# Altium integrated library Xilinx PLD XC9500XL.IntLib: 169 symbols (part 9 of 11)
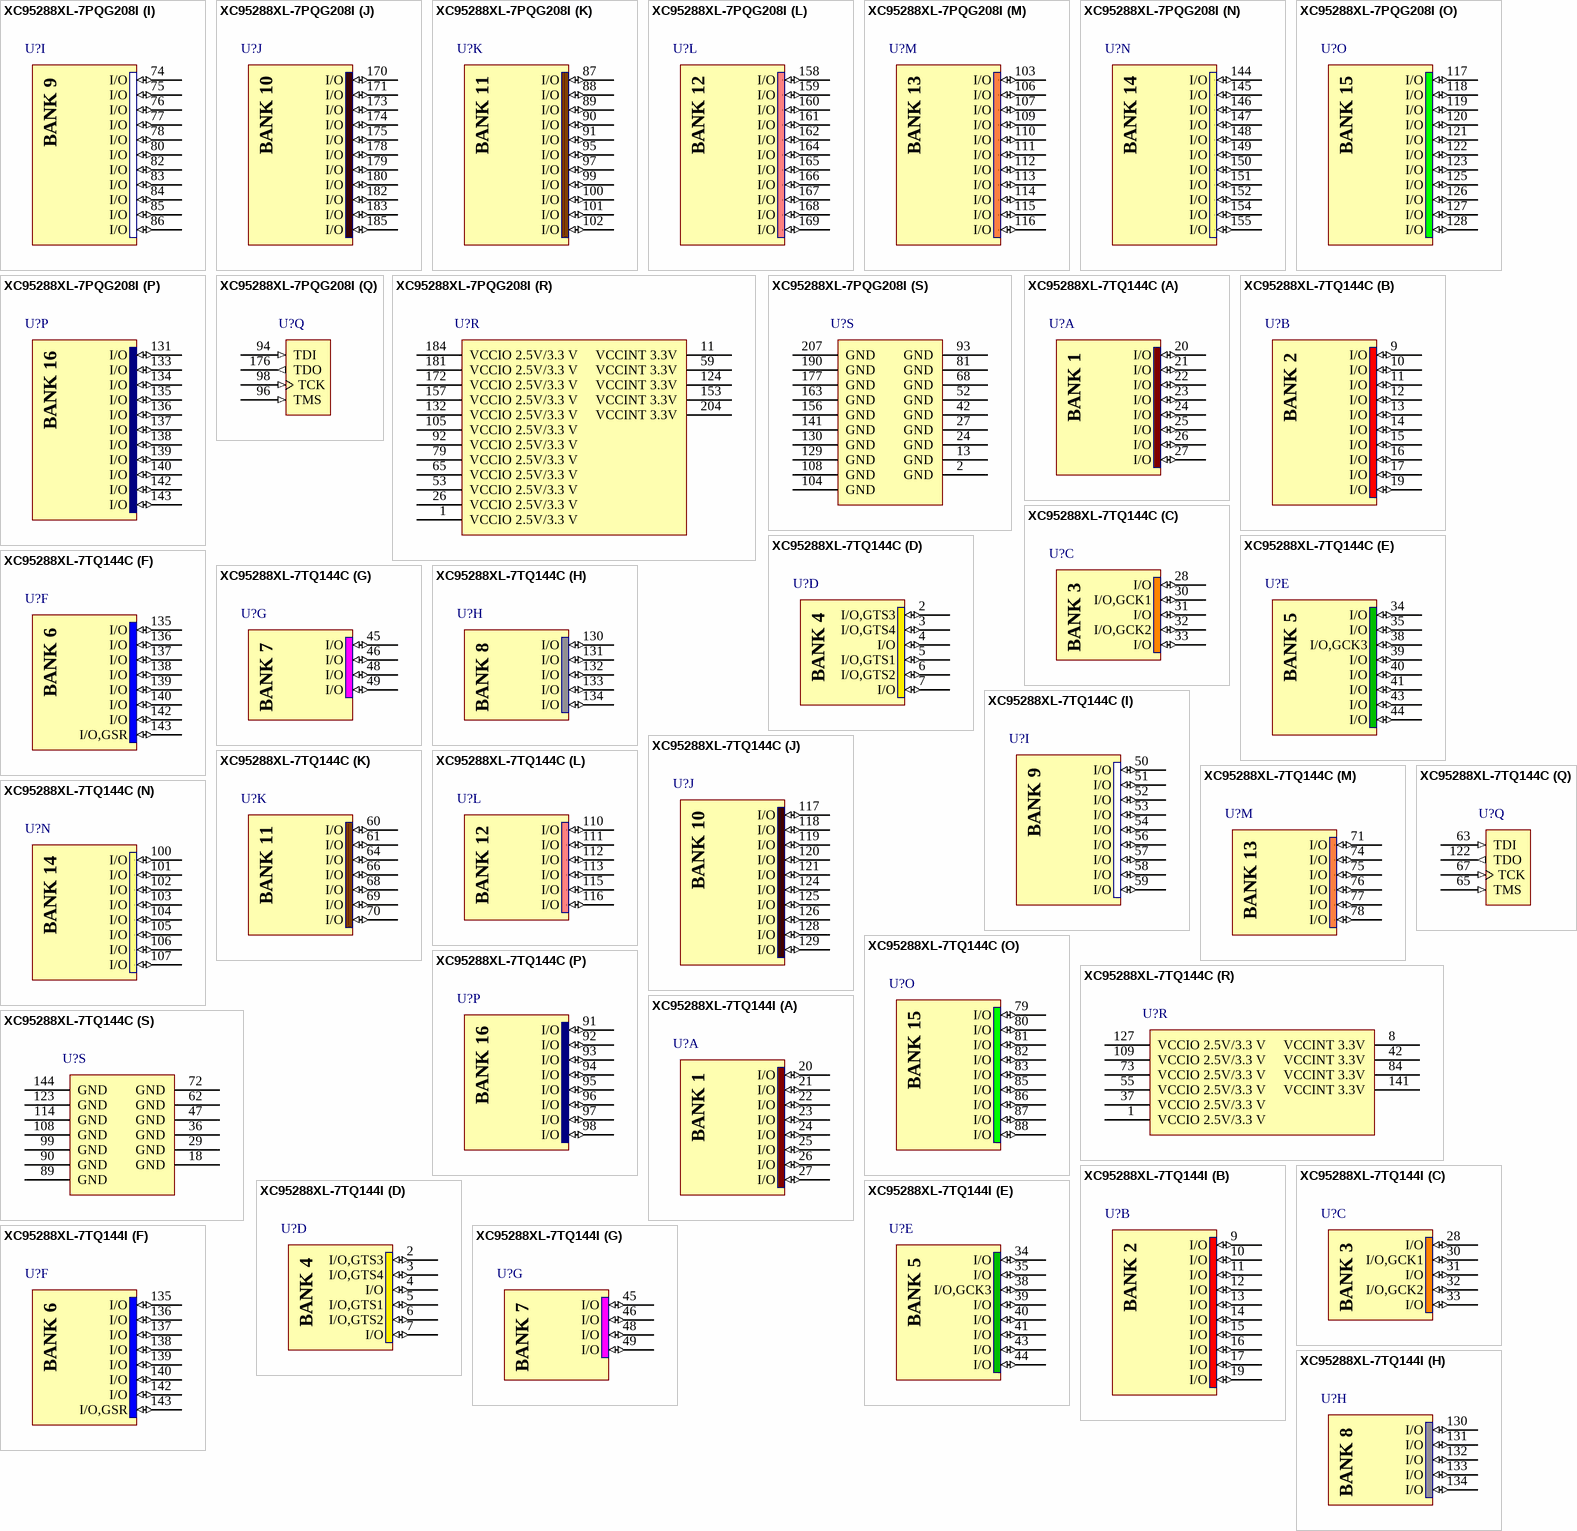
[diagram p61: symbols XC95288XL-7PQG208I to XC95288XL-7TQ144I]

## XC95288XL-7TQ144C
designator U?
FastFLASH XC900XL, 3.3V High-Performance CPLD with 288 Macrocells, 144-Pin TQFP, Commercial Grade; Published: 17-Jul-2002; LatestRevisionDate: 13-Apr-2006; LatestRevisionNote: IPC-7351 Footprint Added.; DatasheetVersion: ver2.0, Mar-2006; PackageVersion: ver1.2, Jun-2004; PackageReference: TQ144; Publisher: Altium Limited; PackageDescription: 144-Pin Thin Quad Flat Pack (TQ144); Code_JEDEC: MS-026-BFB; ComponentLink1Description: Manufacturer Link; ComponentLink1URL: http://www.xilinx.com/products/silicon_solutions/cplds/xc9500_series/xc9500xl/index.htm; ComponentLink2Description: Datasheet; ComponentLink2URL: http://direct.xilinx.com/bvdocs/publications/ds055.pdf
footprint TQ144_N (Thin QFP, 144-Leads, Body 20x20mm, Pitch 0.5mm, IPC Medium Density)
footprint TQ144_L (Thin QFP, 144-Leads, Body 20x20mm, Pitch 0.5mm, IPC High Density)
footprint TQ144_M (Thin QFP, 144-Leads, Body 20x20mm, Pitch 0.5mm, IPC Low Density)
3D model XC95288XL-TQ144 (144-Pin Thin Quad Flat Pack (TQ144))
signal-integrity model XC95288XL_TQ144 (XC9500XL)
part A pins: 20 I/O (io), 21 I/O (io), 22 I/O (io), 23 I/O (io), 24 I/O (io), 25 I/O (io), 26 I/O (io), 27 I/O (io)
part B pins: 9 I/O (io), 10 I/O (io), 11 I/O (io), 12 I/O (io), 13 I/O (io), 14 I/O (io), 15 I/O (io), 16 I/O (io), 17 I/O (io), 19 I/O (io)
part C pins: 28 I/O (io), 30 I/O,GCK1 (io), 31 I/O (io), 32 I/O,GCK2 (io), 33 I/O (io)
part D pins: 2 I/O,GTS3 (io), 3 I/O,GTS4 (io), 4 I/O (io), 5 I/O,GTS1 (io), 6 I/O,GTS2 (io), 7 I/O (io)
part E pins: 34 I/O (io), 35 I/O (io), 38 I/O,GCK3 (io), 39 I/O (io), 40 I/O (io), 41 I/O (io), 43 I/O (io), 44 I/O (io)
part F pins: 135 I/O (io), 136 I/O (io), 137 I/O (io), 138 I/O (io), 139 I/O (io), 140 I/O (io), 142 I/O (io), 143 I/O,GSR (io)
part G pins: 45 I/O (io), 46 I/O (io), 48 I/O (io), 49 I/O (io)
part H pins: 130 I/O (io), 131 I/O (io), 132 I/O (io), 133 I/O (io), 134 I/O (io)
part I pins: 50 I/O (io), 51 I/O (io), 52 I/O (io), 53 I/O (io), 54 I/O (io), 56 I/O (io), 57 I/O (io), 58 I/O (io), 59 I/O (io)
part J pins: 117 I/O (io), 118 I/O (io), 119 I/O (io), 120 I/O (io), 121 I/O (io), 124 I/O (io), 125 I/O (io), 126 I/O (io), 128 I/O (io), 129 I/O (io)
part K pins: 60 I/O (io), 61 I/O (io), 64 I/O (io), 66 I/O (io), 68 I/O (io), 69 I/O (io), 70 I/O (io)
part L pins: 110 I/O (io), 111 I/O (io), 112 I/O (io), 113 I/O (io), 115 I/O (io), 116 I/O (io)
part M pins: 71 I/O (io), 74 I/O (io), 75 I/O (io), 76 I/O (io), 77 I/O (io), 78 I/O (io)
part N pins: 100 I/O (io), 101 I/O (io), 102 I/O (io), 103 I/O (io), 104 I/O (io), 105 I/O (io), 106 I/O (io), 107 I/O (io)
part O pins: 79 I/O (io), 80 I/O (io), 81 I/O (io), 82 I/O (io), 83 I/O (io), 85 I/O (io), 86 I/O (io), 87 I/O (io), 88 I/O (io)
part P pins: 91 I/O (io), 92 I/O (io), 93 I/O (io), 94 I/O (io), 95 I/O (io), 96 I/O (io), 97 I/O (io), 98 I/O (io)
part Q pins: 63 TDI (in), 65 TMS (in), 67 TCK (in), 122 TDO (out)
part R pins: 1 VCCIO 2.5V/3.3 V (power), 8 VCCINT 3.3V (power), 37 VCCIO 2.5V/3.3 V (power), 42 VCCINT 3.3V (power), 55 VCCIO 2.5V/3.3 V (power), 73 VCCIO 2.5V/3.3 V (power), 84 VCCINT 3.3V (power), 109 VCCIO 2.5V/3.3 V (power), 127 VCCIO 2.5V/3.3 V (power), 141 VCCINT 3.3V (power)
part S pins: 18 GND (power), 29 GND (power), 36 GND (power), 47 GND (power), 62 GND (power), 72 GND (power), 89 GND (power), 90 GND (power), 99 GND (power), 108 GND (power), 114 GND (power), 123 GND (power), 144 GND (power)
part A text: BANK 1
part B text: BANK 2
part C text: BANK 3
part D text: BANK 4
part E text: BANK 5
part F text: BANK 6
part G text: BANK 7
part H text: BANK 8
part I text: BANK 9
part J text: BANK 10
part K text: BANK 11
part L text: BANK 12
part M text: BANK 13
part N text: BANK 14
part O text: BANK 15
part P text: BANK 16

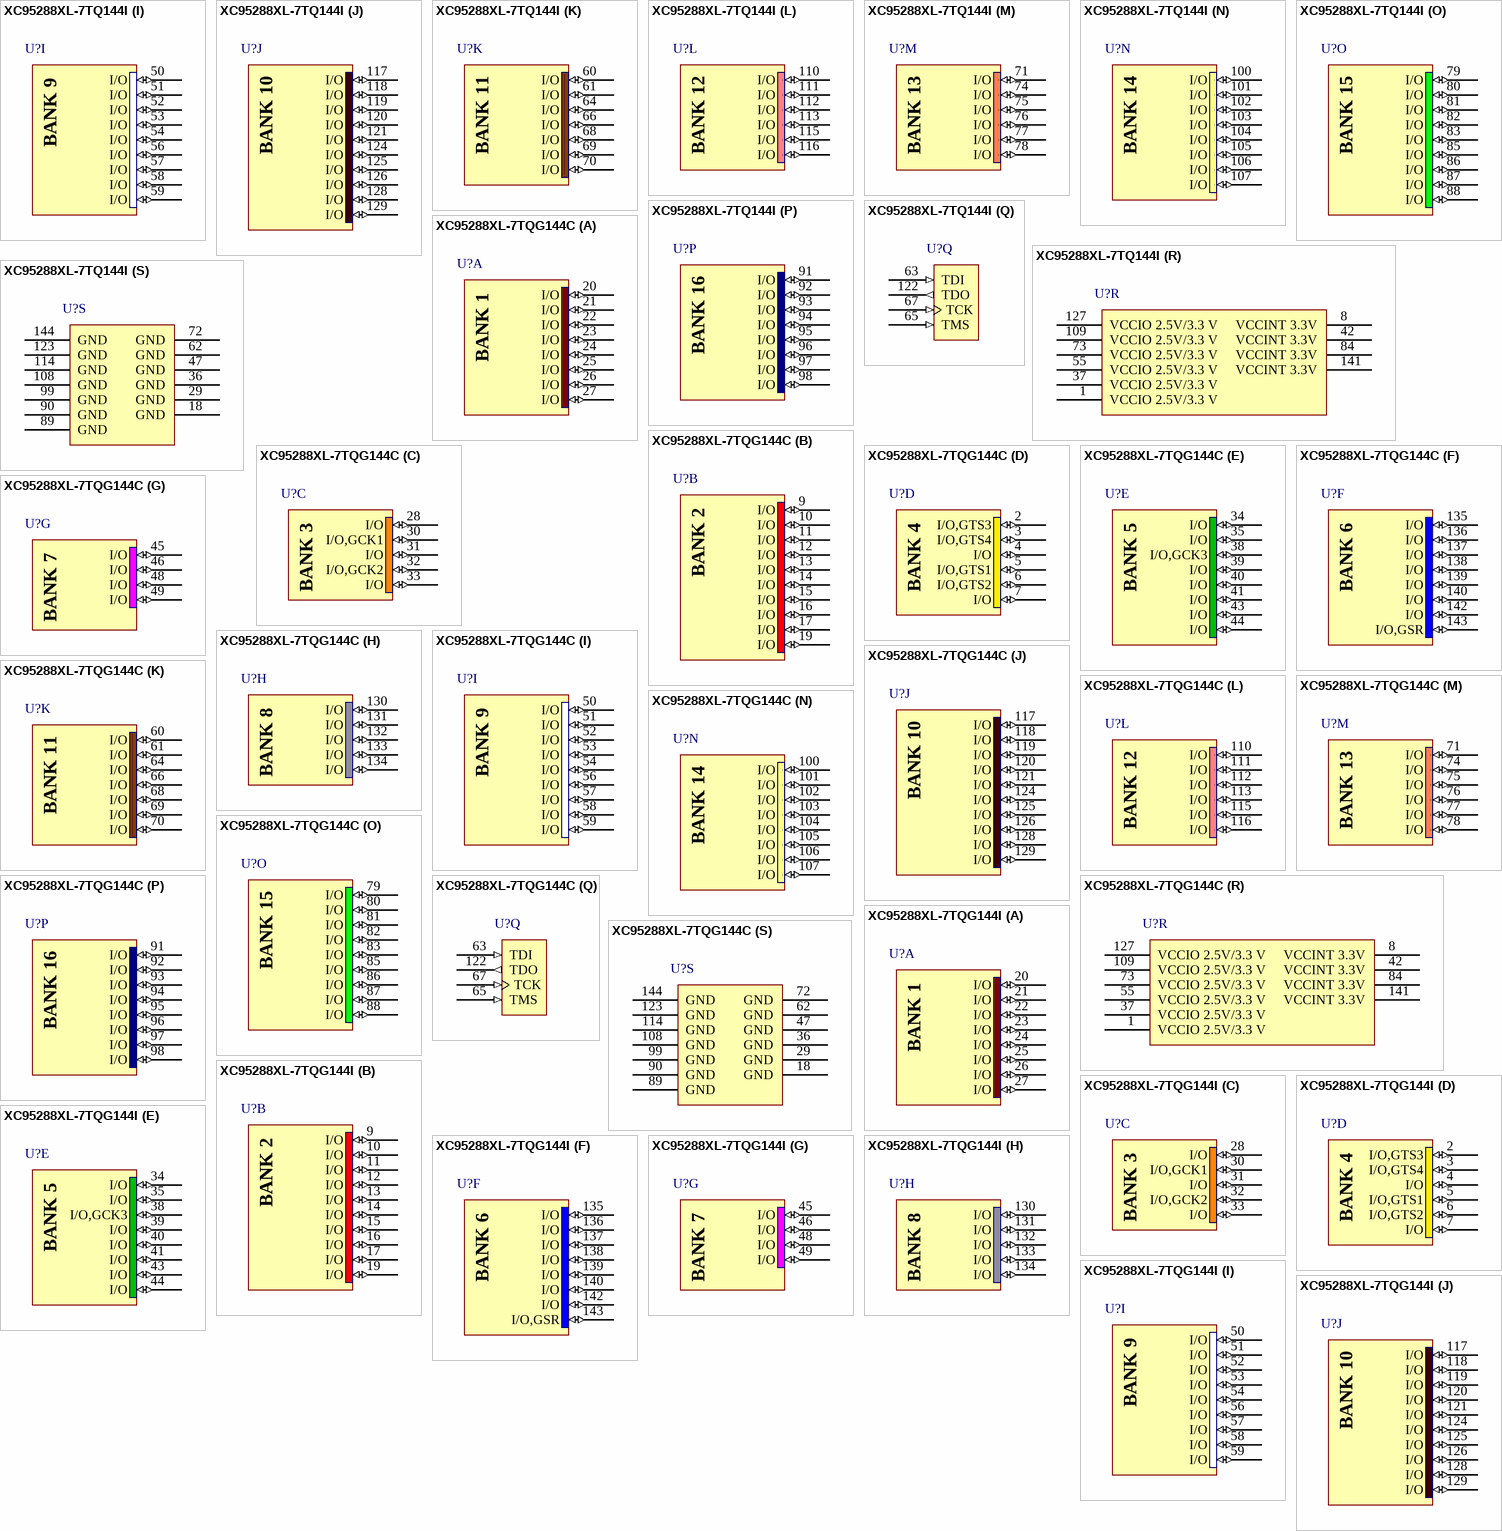
[diagram p41: symbols XC95288XL-7TQ144I to XC95288XL-7TQG144I]

## XC95288XL-7TQ144I
designator U?
FastFLASH XC900XL, 3.3V High-Performance CPLD with 288 Macrocells, 144-Pin TQFP, Industrial Grade; Published: 17-Sep-2003; LatestRevisionDate: 13-Apr-2006; LatestRevisionNote: IPC-7351 Footprint Added.; DatasheetVersion: ver2.0, Mar-2006; PackageVersion: ver1.2, Jun-2004; PackageReference: TQ144; Publisher: Altium Limited; PackageDescription: 144-Pin Thin Quad Flat Pack (TQ144); Code_JEDEC: MS-026-BFB; ComponentLink1Description: Manufacturer Link; ComponentLink1URL: http://www.xilinx.com/products/silicon_solutions/cplds/xc9500_series/xc9500xl/index.htm; ComponentLink2Description: Datasheet; ComponentLink2URL: http://direct.xilinx.com/bvdocs/publications/ds055.pdf
footprint TQ144_N (Thin QFP, 144-Leads, Body 20x20mm, Pitch 0.5mm, IPC Medium Density)
footprint TQ144_L (Thin QFP, 144-Leads, Body 20x20mm, Pitch 0.5mm, IPC High Density)
footprint TQ144_M (Thin QFP, 144-Leads, Body 20x20mm, Pitch 0.5mm, IPC Low Density)
3D model XC95288XL-TQ144 (144-Pin Thin Quad Flat Pack (TQ144))
signal-integrity model XC95288XL_TQ144 (XC9500XL)
part A pins: 20 I/O (io), 21 I/O (io), 22 I/O (io), 23 I/O (io), 24 I/O (io), 25 I/O (io), 26 I/O (io), 27 I/O (io)
part B pins: 9 I/O (io), 10 I/O (io), 11 I/O (io), 12 I/O (io), 13 I/O (io), 14 I/O (io), 15 I/O (io), 16 I/O (io), 17 I/O (io), 19 I/O (io)
part C pins: 28 I/O (io), 30 I/O,GCK1 (io), 31 I/O (io), 32 I/O,GCK2 (io), 33 I/O (io)
part D pins: 2 I/O,GTS3 (io), 3 I/O,GTS4 (io), 4 I/O (io), 5 I/O,GTS1 (io), 6 I/O,GTS2 (io), 7 I/O (io)
part E pins: 34 I/O (io), 35 I/O (io), 38 I/O,GCK3 (io), 39 I/O (io), 40 I/O (io), 41 I/O (io), 43 I/O (io), 44 I/O (io)
part F pins: 135 I/O (io), 136 I/O (io), 137 I/O (io), 138 I/O (io), 139 I/O (io), 140 I/O (io), 142 I/O (io), 143 I/O,GSR (io)
part G pins: 45 I/O (io), 46 I/O (io), 48 I/O (io), 49 I/O (io)
part H pins: 130 I/O (io), 131 I/O (io), 132 I/O (io), 133 I/O (io), 134 I/O (io)
part I pins: 50 I/O (io), 51 I/O (io), 52 I/O (io), 53 I/O (io), 54 I/O (io), 56 I/O (io), 57 I/O (io), 58 I/O (io), 59 I/O (io)
part J pins: 117 I/O (io), 118 I/O (io), 119 I/O (io), 120 I/O (io), 121 I/O (io), 124 I/O (io), 125 I/O (io), 126 I/O (io), 128 I/O (io), 129 I/O (io)
part K pins: 60 I/O (io), 61 I/O (io), 64 I/O (io), 66 I/O (io), 68 I/O (io), 69 I/O (io), 70 I/O (io)
part L pins: 110 I/O (io), 111 I/O (io), 112 I/O (io), 113 I/O (io), 115 I/O (io), 116 I/O (io)
part M pins: 71 I/O (io), 74 I/O (io), 75 I/O (io), 76 I/O (io), 77 I/O (io), 78 I/O (io)
part N pins: 100 I/O (io), 101 I/O (io), 102 I/O (io), 103 I/O (io), 104 I/O (io), 105 I/O (io), 106 I/O (io), 107 I/O (io)
part O pins: 79 I/O (io), 80 I/O (io), 81 I/O (io), 82 I/O (io), 83 I/O (io), 85 I/O (io), 86 I/O (io), 87 I/O (io), 88 I/O (io)
part P pins: 91 I/O (io), 92 I/O (io), 93 I/O (io), 94 I/O (io), 95 I/O (io), 96 I/O (io), 97 I/O (io), 98 I/O (io)
part Q pins: 63 TDI (in), 65 TMS (in), 67 TCK (in), 122 TDO (out)
part R pins: 1 VCCIO 2.5V/3.3 V (power), 8 VCCINT 3.3V (power), 37 VCCIO 2.5V/3.3 V (power), 42 VCCINT 3.3V (power), 55 VCCIO 2.5V/3.3 V (power), 73 VCCIO 2.5V/3.3 V (power), 84 VCCINT 3.3V (power), 109 VCCIO 2.5V/3.3 V (power), 127 VCCIO 2.5V/3.3 V (power), 141 VCCINT 3.3V (power)
part S pins: 18 GND (power), 29 GND (power), 36 GND (power), 47 GND (power), 62 GND (power), 72 GND (power), 89 GND (power), 90 GND (power), 99 GND (power), 108 GND (power), 114 GND (power), 123 GND (power), 144 GND (power)
part A text: BANK 1
part B text: BANK 2
part C text: BANK 3
part D text: BANK 4
part E text: BANK 5
part F text: BANK 6
part G text: BANK 7
part H text: BANK 8
part I text: BANK 9
part J text: BANK 10
part K text: BANK 11
part L text: BANK 12
part M text: BANK 13
part N text: BANK 14
part O text: BANK 15
part P text: BANK 16

## XC95288XL-7TQG144C
designator U?
FastFLASH XC900XL, 3.3V High-Performance CPLD with 288 Macrocells, 144-Pin TQFP, Commercial Grade, Pb-Free; Published: 8-Sep-2006; DatasheetVersion: ver2.0, Mar-2006; PackageVersion: ver1.2, Jun-2004; PackageReference: TQG144; Publisher: Altium Limited; PackageDescription: 144-Pin Thin Quad Flat Pack (TQG144) - Pb-Free; Code_JEDEC: MS-026-BFB; ComponentLink1Description: Manufacturer Link; ComponentLink1URL: http://www.xilinx.com/products/silicon_solutions/cplds/xc9500_series/xc9500xl/index.htm; ComponentLink2Description: Datasheet; ComponentLink2URL: http://direct.xilinx.com/bvdocs/publications/ds055.pdf
footprint TQG144_N (Thin QFP, 144-Leads, Body 20x20mm, Pitch 0.5mm, IPC Medium Density)
footprint TQG144_L (Thin QFP, 144-Leads, Body 20x20mm, Pitch 0.5mm, IPC High Density)
footprint TQG144_M (Thin QFP, 144-Leads, Body 20x20mm, Pitch 0.5mm, IPC Low Density)
3D model XC95288XL-TQ144 (144-Pin Thin Quad Flat Pack (TQG144) - Pb-Free)
signal-integrity model XC95288XL_TQ144 (XC9500XL)
part A pins: 20 I/O (io), 21 I/O (io), 22 I/O (io), 23 I/O (io), 24 I/O (io), 25 I/O (io), 26 I/O (io), 27 I/O (io)
part B pins: 9 I/O (io), 10 I/O (io), 11 I/O (io), 12 I/O (io), 13 I/O (io), 14 I/O (io), 15 I/O (io), 16 I/O (io), 17 I/O (io), 19 I/O (io)
part C pins: 28 I/O (io), 30 I/O,GCK1 (io), 31 I/O (io), 32 I/O,GCK2 (io), 33 I/O (io)
part D pins: 2 I/O,GTS3 (io), 3 I/O,GTS4 (io), 4 I/O (io), 5 I/O,GTS1 (io), 6 I/O,GTS2 (io), 7 I/O (io)
part E pins: 34 I/O (io), 35 I/O (io), 38 I/O,GCK3 (io), 39 I/O (io), 40 I/O (io), 41 I/O (io), 43 I/O (io), 44 I/O (io)
part F pins: 135 I/O (io), 136 I/O (io), 137 I/O (io), 138 I/O (io), 139 I/O (io), 140 I/O (io), 142 I/O (io), 143 I/O,GSR (io)
part G pins: 45 I/O (io), 46 I/O (io), 48 I/O (io), 49 I/O (io)
part H pins: 130 I/O (io), 131 I/O (io), 132 I/O (io), 133 I/O (io), 134 I/O (io)
part I pins: 50 I/O (io), 51 I/O (io), 52 I/O (io), 53 I/O (io), 54 I/O (io), 56 I/O (io), 57 I/O (io), 58 I/O (io), 59 I/O (io)
part J pins: 117 I/O (io), 118 I/O (io), 119 I/O (io), 120 I/O (io), 121 I/O (io), 124 I/O (io), 125 I/O (io), 126 I/O (io), 128 I/O (io), 129 I/O (io)
part K pins: 60 I/O (io), 61 I/O (io), 64 I/O (io), 66 I/O (io), 68 I/O (io), 69 I/O (io), 70 I/O (io)
part L pins: 110 I/O (io), 111 I/O (io), 112 I/O (io), 113 I/O (io), 115 I/O (io), 116 I/O (io)
part M pins: 71 I/O (io), 74 I/O (io), 75 I/O (io), 76 I/O (io), 77 I/O (io), 78 I/O (io)
part N pins: 100 I/O (io), 101 I/O (io), 102 I/O (io), 103 I/O (io), 104 I/O (io), 105 I/O (io), 106 I/O (io), 107 I/O (io)
part O pins: 79 I/O (io), 80 I/O (io), 81 I/O (io), 82 I/O (io), 83 I/O (io), 85 I/O (io), 86 I/O (io), 87 I/O (io), 88 I/O (io)
part P pins: 91 I/O (io), 92 I/O (io), 93 I/O (io), 94 I/O (io), 95 I/O (io), 96 I/O (io), 97 I/O (io), 98 I/O (io)
part Q pins: 63 TDI (in), 65 TMS (in), 67 TCK (in), 122 TDO (out)
part R pins: 1 VCCIO 2.5V/3.3 V (power), 8 VCCINT 3.3V (power), 37 VCCIO 2.5V/3.3 V (power), 42 VCCINT 3.3V (power), 55 VCCIO 2.5V/3.3 V (power), 73 VCCIO 2.5V/3.3 V (power), 84 VCCINT 3.3V (power), 109 VCCIO 2.5V/3.3 V (power), 127 VCCIO 2.5V/3.3 V (power), 141 VCCINT 3.3V (power)
part S pins: 18 GND (power), 29 GND (power), 36 GND (power), 47 GND (power), 62 GND (power), 72 GND (power), 89 GND (power), 90 GND (power), 99 GND (power), 108 GND (power), 114 GND (power), 123 GND (power), 144 GND (power)
part A text: BANK 1
part B text: BANK 2
part C text: BANK 3
part D text: BANK 4
part E text: BANK 5
part F text: BANK 6
part G text: BANK 7
part H text: BANK 8
part I text: BANK 9
part J text: BANK 10
part K text: BANK 11
part L text: BANK 12
part M text: BANK 13
part N text: BANK 14
part O text: BANK 15
part P text: BANK 16

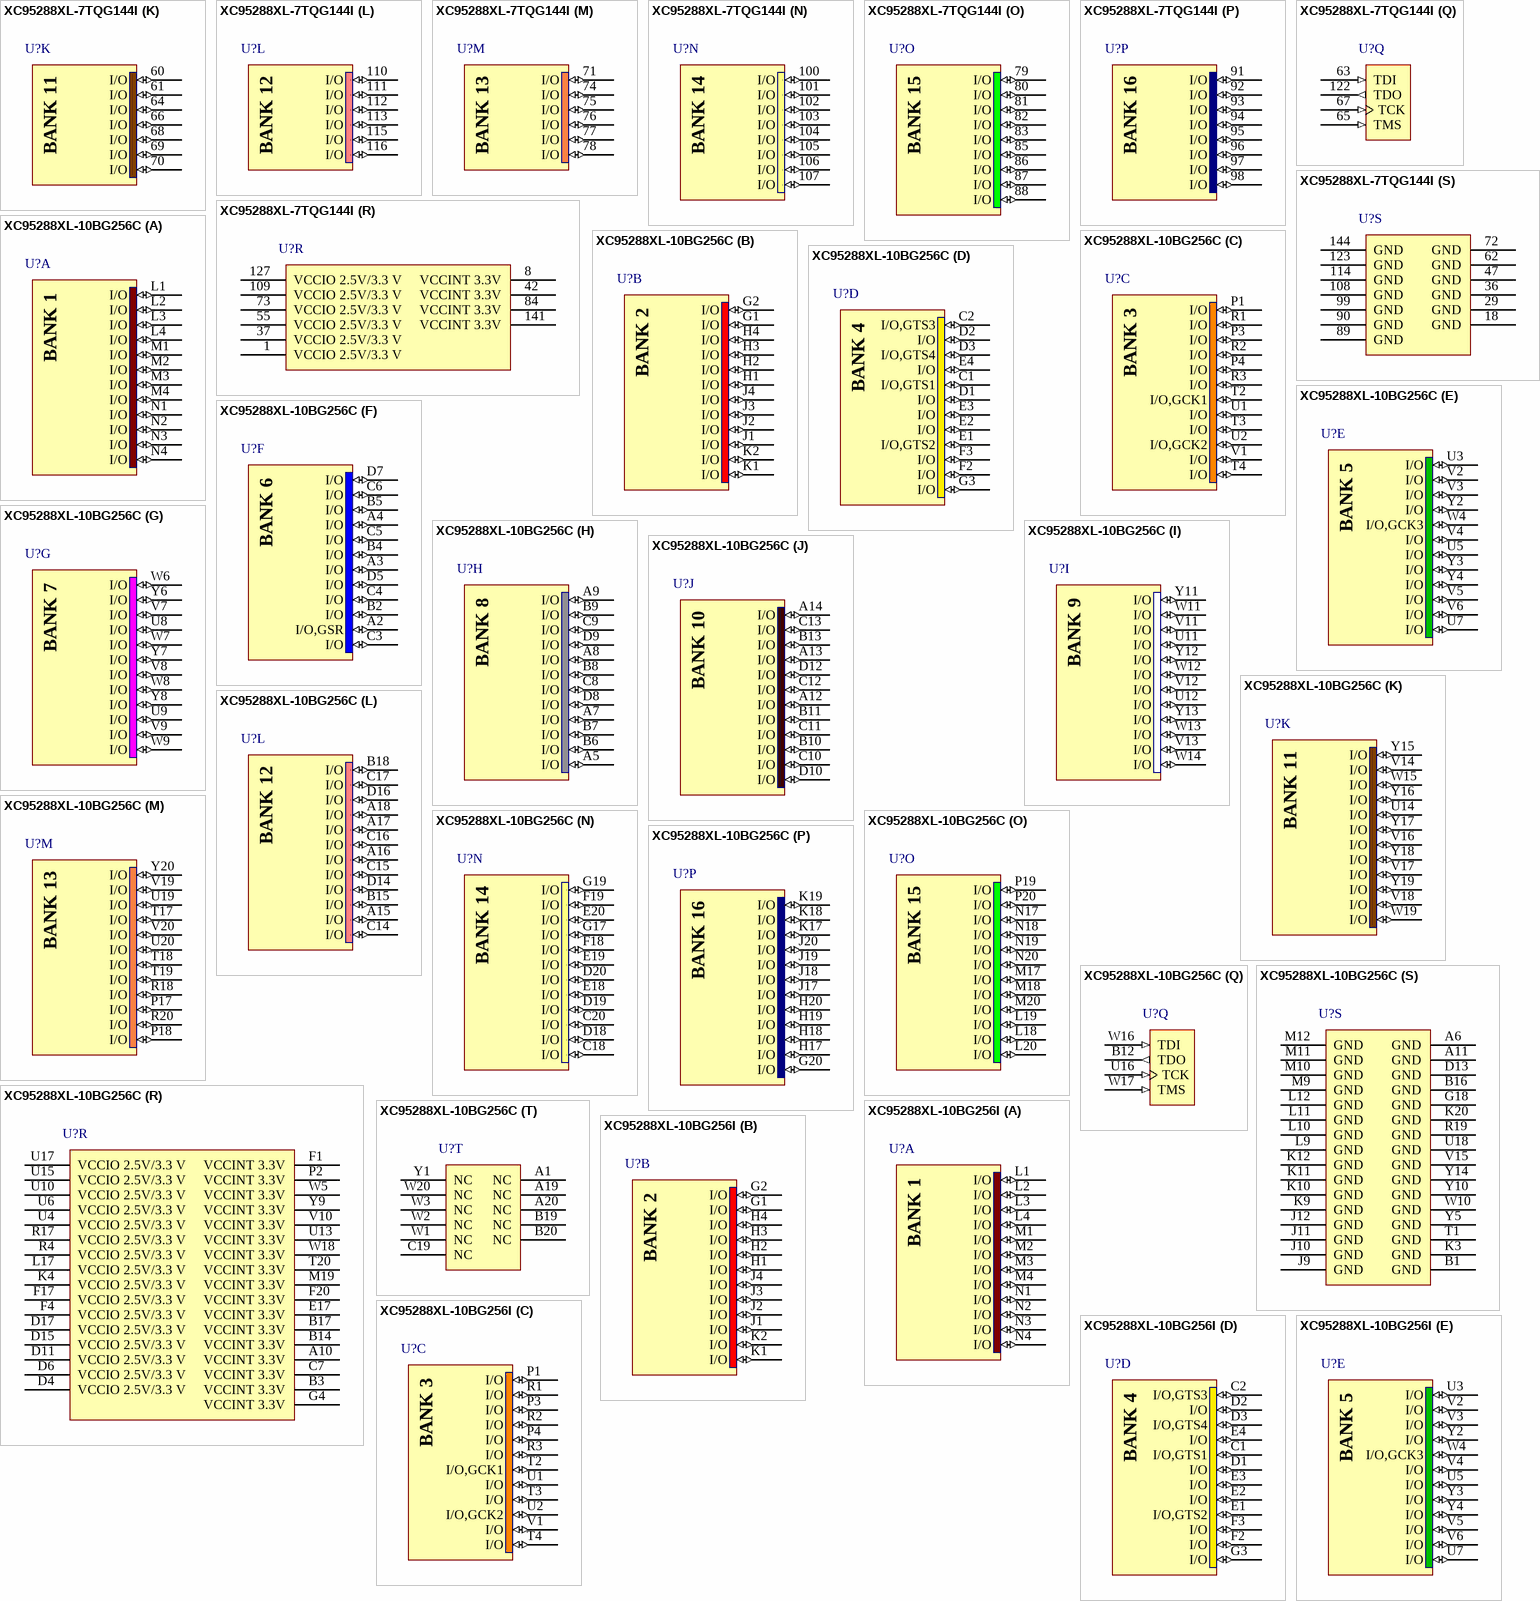
[diagram p42: symbols XC95288XL-7TQG144I to XC95288XL-10BG256I]

## XC95288XL-7TQG144I
designator U?
FastFLASH XC900XL, 3.3V High-Performance CPLD with 288 Macrocells, 144-Pin TQFP, Industrial Grade, Pb-Free; Published: 8-Sep-2006; DatasheetVersion: ver2.0, Mar-2006; PackageVersion: ver1.2, Jun-2004; PackageReference: TQG144; Publisher: Altium Limited; PackageDescription: 144-Pin Thin Quad Flat Pack (TQG144) - Pb-Free; Code_JEDEC: MS-026-BFB; ComponentLink1Description: Manufacturer Link; ComponentLink1URL: http://www.xilinx.com/products/silicon_solutions/cplds/xc9500_series/xc9500xl/index.htm; ComponentLink2Description: Datasheet; ComponentLink2URL: http://direct.xilinx.com/bvdocs/publications/ds055.pdf
footprint TQG144_N (Thin QFP, 144-Leads, Body 20x20mm, Pitch 0.5mm, IPC Medium Density)
footprint TQG144_L (Thin QFP, 144-Leads, Body 20x20mm, Pitch 0.5mm, IPC High Density)
footprint TQG144_M (Thin QFP, 144-Leads, Body 20x20mm, Pitch 0.5mm, IPC Low Density)
3D model XC95288XL-TQ144 (144-Pin Thin Quad Flat Pack (TQG144) - Pb-Free)
signal-integrity model XC95288XL_TQ144 (XC9500XL)
part A pins: 20 I/O (io), 21 I/O (io), 22 I/O (io), 23 I/O (io), 24 I/O (io), 25 I/O (io), 26 I/O (io), 27 I/O (io)
part B pins: 9 I/O (io), 10 I/O (io), 11 I/O (io), 12 I/O (io), 13 I/O (io), 14 I/O (io), 15 I/O (io), 16 I/O (io), 17 I/O (io), 19 I/O (io)
part C pins: 28 I/O (io), 30 I/O,GCK1 (io), 31 I/O (io), 32 I/O,GCK2 (io), 33 I/O (io)
part D pins: 2 I/O,GTS3 (io), 3 I/O,GTS4 (io), 4 I/O (io), 5 I/O,GTS1 (io), 6 I/O,GTS2 (io), 7 I/O (io)
part E pins: 34 I/O (io), 35 I/O (io), 38 I/O,GCK3 (io), 39 I/O (io), 40 I/O (io), 41 I/O (io), 43 I/O (io), 44 I/O (io)
part F pins: 135 I/O (io), 136 I/O (io), 137 I/O (io), 138 I/O (io), 139 I/O (io), 140 I/O (io), 142 I/O (io), 143 I/O,GSR (io)
part G pins: 45 I/O (io), 46 I/O (io), 48 I/O (io), 49 I/O (io)
part H pins: 130 I/O (io), 131 I/O (io), 132 I/O (io), 133 I/O (io), 134 I/O (io)
part I pins: 50 I/O (io), 51 I/O (io), 52 I/O (io), 53 I/O (io), 54 I/O (io), 56 I/O (io), 57 I/O (io), 58 I/O (io), 59 I/O (io)
part J pins: 117 I/O (io), 118 I/O (io), 119 I/O (io), 120 I/O (io), 121 I/O (io), 124 I/O (io), 125 I/O (io), 126 I/O (io), 128 I/O (io), 129 I/O (io)
part K pins: 60 I/O (io), 61 I/O (io), 64 I/O (io), 66 I/O (io), 68 I/O (io), 69 I/O (io), 70 I/O (io)
part L pins: 110 I/O (io), 111 I/O (io), 112 I/O (io), 113 I/O (io), 115 I/O (io), 116 I/O (io)
part M pins: 71 I/O (io), 74 I/O (io), 75 I/O (io), 76 I/O (io), 77 I/O (io), 78 I/O (io)
part N pins: 100 I/O (io), 101 I/O (io), 102 I/O (io), 103 I/O (io), 104 I/O (io), 105 I/O (io), 106 I/O (io), 107 I/O (io)
part O pins: 79 I/O (io), 80 I/O (io), 81 I/O (io), 82 I/O (io), 83 I/O (io), 85 I/O (io), 86 I/O (io), 87 I/O (io), 88 I/O (io)
part P pins: 91 I/O (io), 92 I/O (io), 93 I/O (io), 94 I/O (io), 95 I/O (io), 96 I/O (io), 97 I/O (io), 98 I/O (io)
part Q pins: 63 TDI (in), 65 TMS (in), 67 TCK (in), 122 TDO (out)
part R pins: 1 VCCIO 2.5V/3.3 V (power), 8 VCCINT 3.3V (power), 37 VCCIO 2.5V/3.3 V (power), 42 VCCINT 3.3V (power), 55 VCCIO 2.5V/3.3 V (power), 73 VCCIO 2.5V/3.3 V (power), 84 VCCINT 3.3V (power), 109 VCCIO 2.5V/3.3 V (power), 127 VCCIO 2.5V/3.3 V (power), 141 VCCINT 3.3V (power)
part S pins: 18 GND (power), 29 GND (power), 36 GND (power), 47 GND (power), 62 GND (power), 72 GND (power), 89 GND (power), 90 GND (power), 99 GND (power), 108 GND (power), 114 GND (power), 123 GND (power), 144 GND (power)
part A text: BANK 1
part B text: BANK 2
part C text: BANK 3
part D text: BANK 4
part E text: BANK 5
part F text: BANK 6
part G text: BANK 7
part H text: BANK 8
part I text: BANK 9
part J text: BANK 10
part K text: BANK 11
part L text: BANK 12
part M text: BANK 13
part N text: BANK 14
part O text: BANK 15
part P text: BANK 16

## XC95288XL-10BG256C
designator U?
FastFLASH XC900XL, 3.3V High-Performance CPLD with 288 Macrocells, 256-Ball BGA, Commercial Grade; Note: BGA package contains 16 extra balls (Grounded); Published: 17-Jul-2002; LatestRevisionDate: 13-Apr-2006; LatestRevisionNote: IPC-7351 Footprint Added.; DatasheetVersion: ver2.0, Mar-2006; PackageVersion: ver1.2, Apr-2006; PackageReference: BG256TE; Publisher: Altium Limited; PackageDescription: 256-Ball Plastic Ball Grid Array (BG256) - Thermally Enhanced; Code_JEDEC: MS-034-BAL-2; ComponentLink1Description: Manufacturer Link; ComponentLink1URL: http://www.xilinx.com/products/silicon_solutions/cplds/xc9500_series/xc9500xl/index.htm; ComponentLink2Description: Datasheet; ComponentLink2URL: http://direct.xilinx.com/bvdocs/publications/ds055.pdf
footprint BG256TE (BGA, 272-Leads, Body 27x27mm, Pitch 1.27mm)
3D model XC95288XL-BG256TE (256-Ball Plastic Ball Grid Array (BG256) - Thermally Enhanced)
signal-integrity model XC95288XL_BG256 (XC9500XL)
part A pins: L1 I/O (io), L2 I/O (io), L3 I/O (io), L4 I/O (io), M1 I/O (io), M2 I/O (io), M3 I/O (io), M4 I/O (io), N1 I/O (io), N2 I/O (io), N3 I/O (io), N4 I/O (io)
part B pins: G1 I/O (io), G2 I/O (io), H1 I/O (io), H2 I/O (io), H3 I/O (io), H4 I/O (io), J1 I/O (io), J2 I/O (io), J3 I/O (io), J4 I/O (io), K1 I/O (io), K2 I/O (io)
part C pins: P1 I/O (io), P3 I/O (io), P4 I/O (io), R1 I/O (io), R2 I/O (io), R3 I/O (io), T2 I/O,GCK1 (io), T3 I/O (io), T4 I/O (io), U1 I/O (io), U2 I/O,GCK2 (io), V1 I/O (io)
part D pins: C1 I/O,GTS1 (io), C2 I/O,GTS3 (io), D1 I/O (io), D2 I/O (io), D3 I/O,GTS4 (io), E1 I/O,GTS2 (io), E2 I/O (io), E3 I/O (io), E4 I/O (io), F2 I/O (io), F3 I/O (io), G3 I/O (io)
part E pins: U3 I/O (io), U5 I/O (io), U7 I/O (io), V2 I/O (io), V3 I/O (io), V4 I/O (io), V5 I/O (io), V6 I/O (io), W4 I/O,GCK3 (io), Y2 I/O (io), Y3 I/O (io), Y4 I/O (io)
part F pins: A2 I/O,GSR (io), A3 I/O (io), A4 I/O (io), B2 I/O (io), B4 I/O (io), B5 I/O (io), C3 I/O (io), C4 I/O (io), C5 I/O (io), C6 I/O (io), D5 I/O (io), D7 I/O (io)
part G pins: U8 I/O (io), U9 I/O (io), V7 I/O (io), V8 I/O (io), V9 I/O (io), W6 I/O (io), W7 I/O (io), W8 I/O (io), W9 I/O (io), Y6 I/O (io), Y7 I/O (io), Y8 I/O (io)
part H pins: A5 I/O (io), A7 I/O (io), A8 I/O (io), A9 I/O (io), B6 I/O (io), B7 I/O (io), B8 I/O (io), B9 I/O (io), C8 I/O (io), C9 I/O (io), D8 I/O (io), D9 I/O (io)
part I pins: U11 I/O (io), U12 I/O (io), V11 I/O (io), V12 I/O (io), V13 I/O (io), W11 I/O (io), W12 I/O (io), W13 I/O (io), W14 I/O (io), Y11 I/O (io), Y12 I/O (io), Y13 I/O (io)
part J pins: A12 I/O (io), A13 I/O (io), A14 I/O (io), B10 I/O (io), B11 I/O (io), B13 I/O (io), C10 I/O (io), C11 I/O (io), C12 I/O (io), C13 I/O (io), D10 I/O (io), D12 I/O (io)
part K pins: U14 I/O (io), V14 I/O (io), V16 I/O (io), V17 I/O (io), V18 I/O (io), W15 I/O (io), W19 I/O (io), Y15 I/O (io), Y16 I/O (io), Y17 I/O (io), Y18 I/O (io), Y19 I/O (io)
part L pins: A15 I/O (io), A16 I/O (io), A17 I/O (io), A18 I/O (io), B15 I/O (io), B18 I/O (io), C14 I/O (io), C15 I/O (io), C16 I/O (io), C17 I/O (io), D14 I/O (io), D16 I/O (io)
part M pins: P17 I/O (io), P18 I/O (io), R18 I/O (io), R20 I/O (io), T17 I/O (io), T18 I/O (io), T19 I/O (io), U19 I/O (io), U20 I/O (io), V19 I/O (io), V20 I/O (io), Y20 I/O (io)
part N pins: C18 I/O (io), C20 I/O (io), D18 I/O (io), D19 I/O (io), D20 I/O (io), E18 I/O (io), E19 I/O (io), E20 I/O (io), F18 I/O (io), F19 I/O (io), G17 I/O (io), G19 I/O (io)
part O pins: L18 I/O (io), L19 I/O (io), L20 I/O (io), M17 I/O (io), M18 I/O (io), M20 I/O (io), N17 I/O (io), N18 I/O (io), N19 I/O (io), N20 I/O (io), P19 I/O (io), P20 I/O (io)
part P pins: G20 I/O (io), H17 I/O (io), H18 I/O (io), H19 I/O (io), H20 I/O (io), J17 I/O (io), J18 I/O (io), J19 I/O (io), J20 I/O (io), K17 I/O (io), K18 I/O (io), K19 I/O (io)
part Q pins: B12 TDO (out), U16 TCK (in), W16 TDI (in), W17 TMS (in)
part R pins: A10 VCCINT 3.3V (power), B3 VCCINT 3.3V (power), B14 VCCINT 3.3V (power), B17 VCCINT 3.3V (power), C7 VCCINT 3.3V (power), D4 VCCIO 2.5V/3.3 V (power), D6 VCCIO 2.5V/3.3 V (power), D11 VCCIO 2.5V/3.3 V (power), D15 VCCIO 2.5V/3.3 V (power), D17 VCCIO 2.5V/3.3 V (power), E17 VCCINT 3.3V (power), F1 VCCINT 3.3V (power), F4 VCCIO 2.5V/3.3 V (power), F17 VCCIO 2.5V/3.3 V (power), F20 VCCINT 3.3V (power), G4 VCCINT 3.3V (power), K4 VCCIO 2.5V/3.3 V (power), L17 VCCIO 2.5V/3.3 V (power), M19 VCCINT 3.3V (power), P2 VCCINT 3.3V (power), R4 VCCIO 2.5V/3.3 V (power), R17 VCCIO 2.5V/3.3 V (power), T20 VCCINT 3.3V (power), U4 VCCIO 2.5V/3.3 V (power), U6 VCCIO 2.5V/3.3 V (power), U10 VCCIO 2.5V/3.3 V (power), U13 VCCINT 3.3V (power), U15 VCCIO 2.5V/3.3 V (power), U17 VCCIO 2.5V/3.3 V (power), V10 VCCINT 3.3V (power), W5 VCCINT 3.3V (power), W18 VCCINT 3.3V (power), Y9 VCCINT 3.3V (power)
part S pins: A6 GND (power), A11 GND (power), B1 GND (power), B16 GND (power), D13 GND (power), G18 GND (power), J9 GND (power), J10 GND (power), J11 GND (power), J12 GND (power), K3 GND (power), K9 GND (power), K10 GND (power), K11 GND (power), K12 GND (power), K20 GND (power), L9 GND (power), L10 GND (power), L11 GND (power), L12 GND (power), M9 GND (power), M10 GND (power), M11 GND (power), M12 GND (power), R19 GND (power), T1 GND (power), U18 GND (power), V15 GND (power), W10 GND (power), Y5 GND (power), Y10 GND (power), Y14 GND (power)
part T pins: A1 NC, A19 NC, A20 NC, B19 NC, B20 NC, C19 NC, W1 NC, W2 NC, W3 NC, W20 NC, Y1 NC
part A text: BANK 1
part B text: BANK 2
part C text: BANK 3
part D text: BANK 4
part E text: BANK 5
part F text: BANK 6
part G text: BANK 7
part H text: BANK 8
part I text: BANK 9
part J text: BANK 10
part K text: BANK 11
part L text: BANK 12
part M text: BANK 13
part N text: BANK 14
part O text: BANK 15
part P text: BANK 16

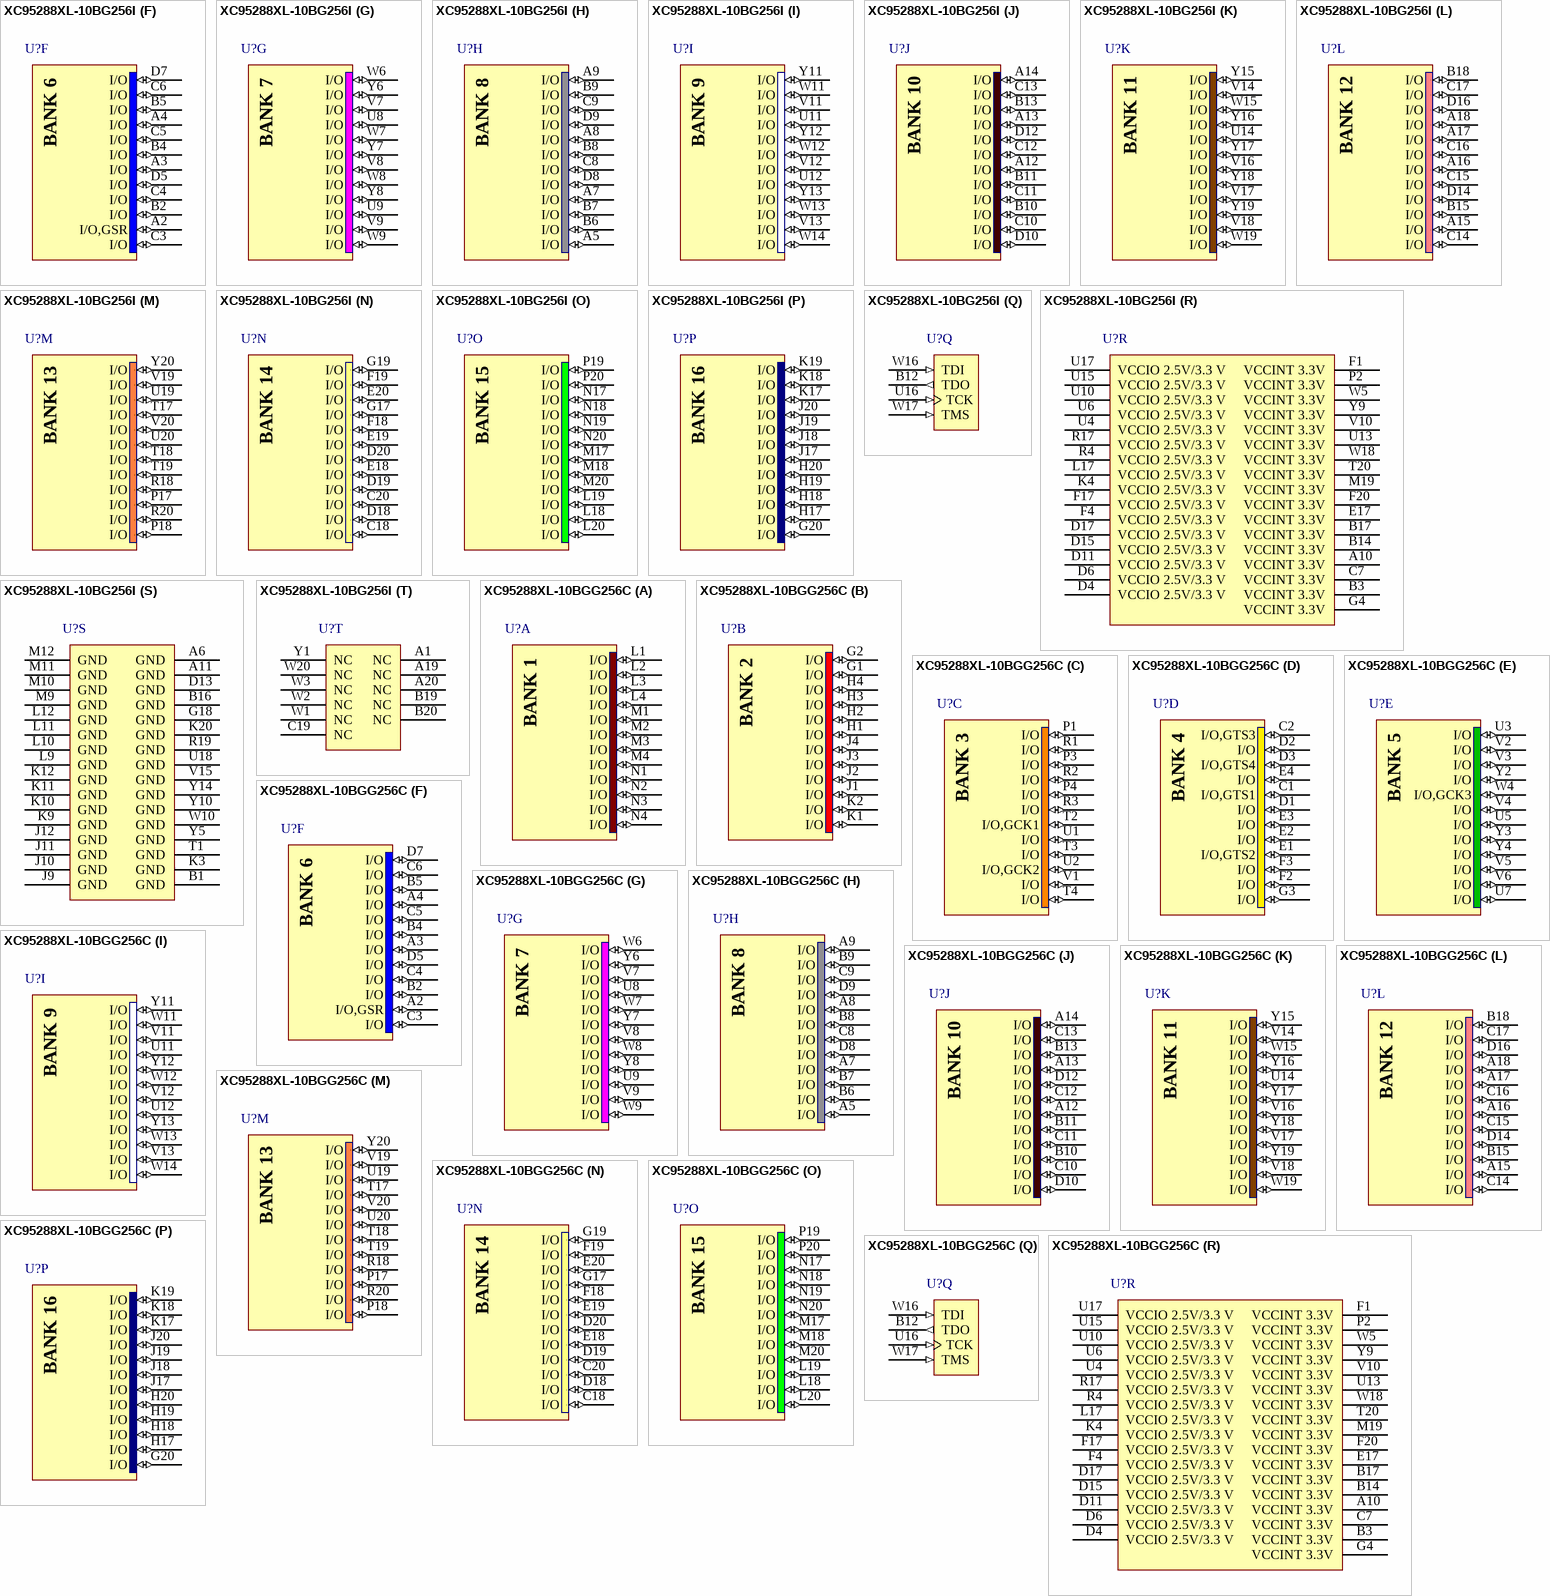
[diagram p43: symbols XC95288XL-10BG256I to XC95288XL-10BGG256C]

## XC95288XL-10BG256I
designator U?
FastFLASH XC900XL, 3.3V High-Performance CPLD with 288 Macrocells, 256-Ball BGA, Industrial Grade; Note: BGA package contains 16 extra balls (Grounded); Published: 17-Jul-2002; LatestRevisionDate: 13-Apr-2006; LatestRevisionNote: IPC-7351 Footprint Added.; DatasheetVersion: ver2.0, Mar-2006; PackageVersion: ver1.2, Apr-2006; PackageReference: BG256TE; Publisher: Altium Limited; PackageDescription: 256-Ball Plastic Ball Grid Array (BG256) - Thermally Enhanced; Code_JEDEC: MS-034-BAL-2; ComponentLink1Description: Manufacturer Link; ComponentLink1URL: http://www.xilinx.com/products/silicon_solutions/cplds/xc9500_series/xc9500xl/index.htm; ComponentLink2Description: Datasheet; ComponentLink2URL: http://direct.xilinx.com/bvdocs/publications/ds055.pdf
footprint BG256TE (BGA, 272-Leads, Body 27x27mm, Pitch 1.27mm)
3D model XC95288XL-BG256TE (256-Ball Plastic Ball Grid Array (BG256) - Thermally Enhanced)
signal-integrity model XC95288XL_BG256 (XC9500XL)
part A pins: L1 I/O (io), L2 I/O (io), L3 I/O (io), L4 I/O (io), M1 I/O (io), M2 I/O (io), M3 I/O (io), M4 I/O (io), N1 I/O (io), N2 I/O (io), N3 I/O (io), N4 I/O (io)
part B pins: G1 I/O (io), G2 I/O (io), H1 I/O (io), H2 I/O (io), H3 I/O (io), H4 I/O (io), J1 I/O (io), J2 I/O (io), J3 I/O (io), J4 I/O (io), K1 I/O (io), K2 I/O (io)
part C pins: P1 I/O (io), P3 I/O (io), P4 I/O (io), R1 I/O (io), R2 I/O (io), R3 I/O (io), T2 I/O,GCK1 (io), T3 I/O (io), T4 I/O (io), U1 I/O (io), U2 I/O,GCK2 (io), V1 I/O (io)
part D pins: C1 I/O,GTS1 (io), C2 I/O,GTS3 (io), D1 I/O (io), D2 I/O (io), D3 I/O,GTS4 (io), E1 I/O,GTS2 (io), E2 I/O (io), E3 I/O (io), E4 I/O (io), F2 I/O (io), F3 I/O (io), G3 I/O (io)
part E pins: U3 I/O (io), U5 I/O (io), U7 I/O (io), V2 I/O (io), V3 I/O (io), V4 I/O (io), V5 I/O (io), V6 I/O (io), W4 I/O,GCK3 (io), Y2 I/O (io), Y3 I/O (io), Y4 I/O (io)
part F pins: A2 I/O,GSR (io), A3 I/O (io), A4 I/O (io), B2 I/O (io), B4 I/O (io), B5 I/O (io), C3 I/O (io), C4 I/O (io), C5 I/O (io), C6 I/O (io), D5 I/O (io), D7 I/O (io)
part G pins: U8 I/O (io), U9 I/O (io), V7 I/O (io), V8 I/O (io), V9 I/O (io), W6 I/O (io), W7 I/O (io), W8 I/O (io), W9 I/O (io), Y6 I/O (io), Y7 I/O (io), Y8 I/O (io)
part H pins: A5 I/O (io), A7 I/O (io), A8 I/O (io), A9 I/O (io), B6 I/O (io), B7 I/O (io), B8 I/O (io), B9 I/O (io), C8 I/O (io), C9 I/O (io), D8 I/O (io), D9 I/O (io)
part I pins: U11 I/O (io), U12 I/O (io), V11 I/O (io), V12 I/O (io), V13 I/O (io), W11 I/O (io), W12 I/O (io), W13 I/O (io), W14 I/O (io), Y11 I/O (io), Y12 I/O (io), Y13 I/O (io)
part J pins: A12 I/O (io), A13 I/O (io), A14 I/O (io), B10 I/O (io), B11 I/O (io), B13 I/O (io), C10 I/O (io), C11 I/O (io), C12 I/O (io), C13 I/O (io), D10 I/O (io), D12 I/O (io)
part K pins: U14 I/O (io), V14 I/O (io), V16 I/O (io), V17 I/O (io), V18 I/O (io), W15 I/O (io), W19 I/O (io), Y15 I/O (io), Y16 I/O (io), Y17 I/O (io), Y18 I/O (io), Y19 I/O (io)
part L pins: A15 I/O (io), A16 I/O (io), A17 I/O (io), A18 I/O (io), B15 I/O (io), B18 I/O (io), C14 I/O (io), C15 I/O (io), C16 I/O (io), C17 I/O (io), D14 I/O (io), D16 I/O (io)
part M pins: P17 I/O (io), P18 I/O (io), R18 I/O (io), R20 I/O (io), T17 I/O (io), T18 I/O (io), T19 I/O (io), U19 I/O (io), U20 I/O (io), V19 I/O (io), V20 I/O (io), Y20 I/O (io)
part N pins: C18 I/O (io), C20 I/O (io), D18 I/O (io), D19 I/O (io), D20 I/O (io), E18 I/O (io), E19 I/O (io), E20 I/O (io), F18 I/O (io), F19 I/O (io), G17 I/O (io), G19 I/O (io)
part O pins: L18 I/O (io), L19 I/O (io), L20 I/O (io), M17 I/O (io), M18 I/O (io), M20 I/O (io), N17 I/O (io), N18 I/O (io), N19 I/O (io), N20 I/O (io), P19 I/O (io), P20 I/O (io)
part P pins: G20 I/O (io), H17 I/O (io), H18 I/O (io), H19 I/O (io), H20 I/O (io), J17 I/O (io), J18 I/O (io), J19 I/O (io), J20 I/O (io), K17 I/O (io), K18 I/O (io), K19 I/O (io)
part Q pins: B12 TDO (out), U16 TCK (in), W16 TDI (in), W17 TMS (in)
part R pins: A10 VCCINT 3.3V (power), B3 VCCINT 3.3V (power), B14 VCCINT 3.3V (power), B17 VCCINT 3.3V (power), C7 VCCINT 3.3V (power), D4 VCCIO 2.5V/3.3 V (power), D6 VCCIO 2.5V/3.3 V (power), D11 VCCIO 2.5V/3.3 V (power), D15 VCCIO 2.5V/3.3 V (power), D17 VCCIO 2.5V/3.3 V (power), E17 VCCINT 3.3V (power), F1 VCCINT 3.3V (power), F4 VCCIO 2.5V/3.3 V (power), F17 VCCIO 2.5V/3.3 V (power), F20 VCCINT 3.3V (power), G4 VCCINT 3.3V (power), K4 VCCIO 2.5V/3.3 V (power), L17 VCCIO 2.5V/3.3 V (power), M19 VCCINT 3.3V (power), P2 VCCINT 3.3V (power), R4 VCCIO 2.5V/3.3 V (power), R17 VCCIO 2.5V/3.3 V (power), T20 VCCINT 3.3V (power), U4 VCCIO 2.5V/3.3 V (power), U6 VCCIO 2.5V/3.3 V (power), U10 VCCIO 2.5V/3.3 V (power), U13 VCCINT 3.3V (power), U15 VCCIO 2.5V/3.3 V (power), U17 VCCIO 2.5V/3.3 V (power), V10 VCCINT 3.3V (power), W5 VCCINT 3.3V (power), W18 VCCINT 3.3V (power), Y9 VCCINT 3.3V (power)
part S pins: A6 GND (power), A11 GND (power), B1 GND (power), B16 GND (power), D13 GND (power), G18 GND (power), J9 GND (power), J10 GND (power), J11 GND (power), J12 GND (power), K3 GND (power), K9 GND (power), K10 GND (power), K11 GND (power), K12 GND (power), K20 GND (power), L9 GND (power), L10 GND (power), L11 GND (power), L12 GND (power), M9 GND (power), M10 GND (power), M11 GND (power), M12 GND (power), R19 GND (power), T1 GND (power), U18 GND (power), V15 GND (power), W10 GND (power), Y5 GND (power), Y10 GND (power), Y14 GND (power)
part T pins: A1 NC, A19 NC, A20 NC, B19 NC, B20 NC, C19 NC, W1 NC, W2 NC, W3 NC, W20 NC, Y1 NC
part A text: BANK 1
part B text: BANK 2
part C text: BANK 3
part D text: BANK 4
part E text: BANK 5
part F text: BANK 6
part G text: BANK 7
part H text: BANK 8
part I text: BANK 9
part J text: BANK 10
part K text: BANK 11
part L text: BANK 12
part M text: BANK 13
part N text: BANK 14
part O text: BANK 15
part P text: BANK 16

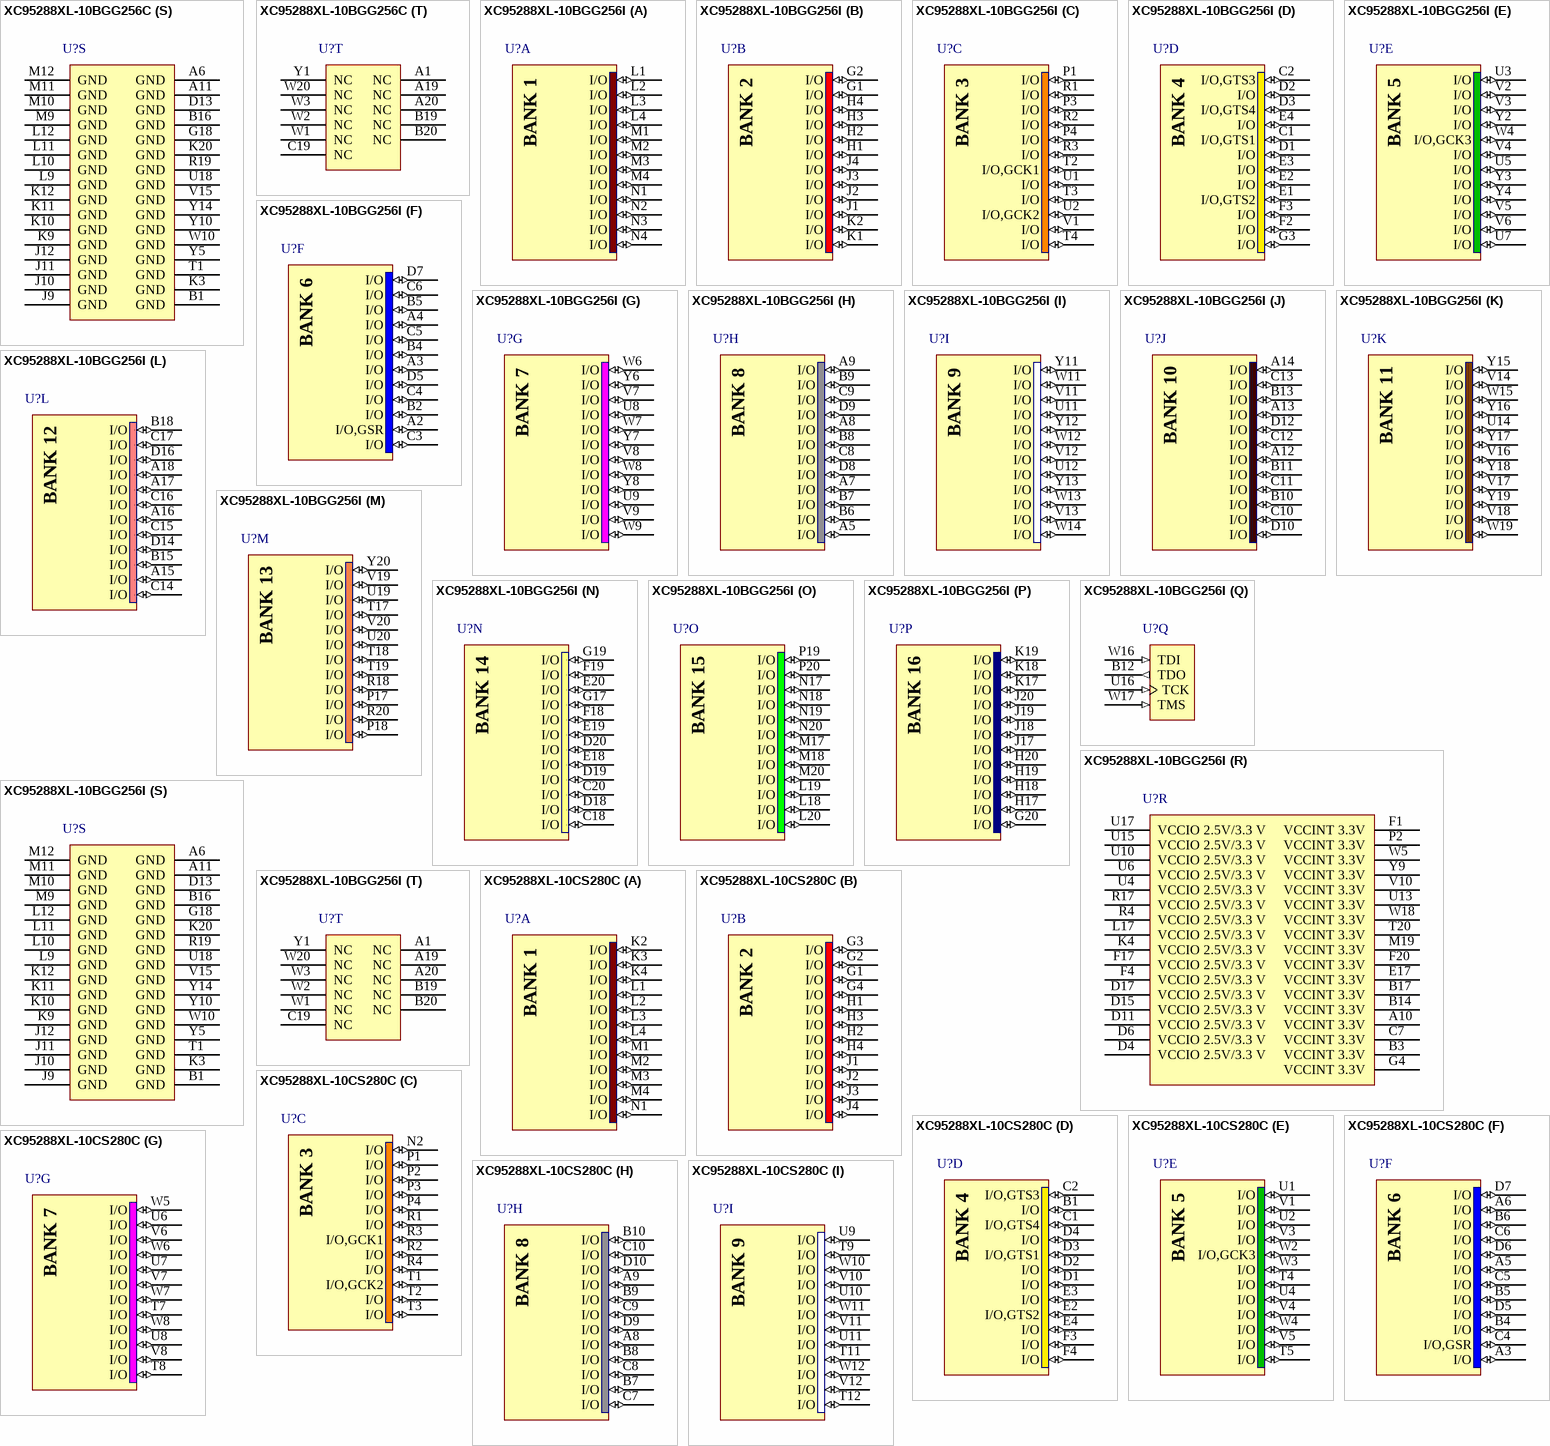
[diagram p44: symbols XC95288XL-10BGG256C to XC95288XL-10CS280C]

## XC95288XL-10BGG256C
designator U?
FastFLASH XC900XL, 3.3V High-Performance CPLD with 288 Macrocells, 256-Ball BGA, Commercial Grade, Pb-Free; Note: BGA package contains 16 extra balls (Grounded); Published: 8-Sep-2006; DatasheetVersion: ver2.0, Mar-2006; PackageVersion: ver1.2, Apr-2006; PackageReference: BGG256TE; Publisher: Altium Limited; PackageDescription: 256-Ball Plastic Ball Grid Array (BG256) - Thermally Enhanced - Pb-Free; Code_JEDEC: MS-034-BAL-2; ComponentLink1Description: Manufacturer Link; ComponentLink1URL: http://www.xilinx.com/products/silicon_solutions/cplds/xc9500_series/xc9500xl/index.htm; ComponentLink2Description: Datasheet; ComponentLink2URL: http://direct.xilinx.com/bvdocs/publications/ds055.pdf
footprint BGG256TE (BGA, 272-Leads, Body 27x27mm, Pitch 1.27mm)
3D model XC95288XL-BG256TE (256-Ball Plastic Ball Grid Array (BG256) - Thermally Enhanced - Pb-Free)
signal-integrity model XC95288XL_BG256 (XC9500XL)
part A pins: L1 I/O (io), L2 I/O (io), L3 I/O (io), L4 I/O (io), M1 I/O (io), M2 I/O (io), M3 I/O (io), M4 I/O (io), N1 I/O (io), N2 I/O (io), N3 I/O (io), N4 I/O (io)
part B pins: G1 I/O (io), G2 I/O (io), H1 I/O (io), H2 I/O (io), H3 I/O (io), H4 I/O (io), J1 I/O (io), J2 I/O (io), J3 I/O (io), J4 I/O (io), K1 I/O (io), K2 I/O (io)
part C pins: P1 I/O (io), P3 I/O (io), P4 I/O (io), R1 I/O (io), R2 I/O (io), R3 I/O (io), T2 I/O,GCK1 (io), T3 I/O (io), T4 I/O (io), U1 I/O (io), U2 I/O,GCK2 (io), V1 I/O (io)
part D pins: C1 I/O,GTS1 (io), C2 I/O,GTS3 (io), D1 I/O (io), D2 I/O (io), D3 I/O,GTS4 (io), E1 I/O,GTS2 (io), E2 I/O (io), E3 I/O (io), E4 I/O (io), F2 I/O (io), F3 I/O (io), G3 I/O (io)
part E pins: U3 I/O (io), U5 I/O (io), U7 I/O (io), V2 I/O (io), V3 I/O (io), V4 I/O (io), V5 I/O (io), V6 I/O (io), W4 I/O,GCK3 (io), Y2 I/O (io), Y3 I/O (io), Y4 I/O (io)
part F pins: A2 I/O,GSR (io), A3 I/O (io), A4 I/O (io), B2 I/O (io), B4 I/O (io), B5 I/O (io), C3 I/O (io), C4 I/O (io), C5 I/O (io), C6 I/O (io), D5 I/O (io), D7 I/O (io)
part G pins: U8 I/O (io), U9 I/O (io), V7 I/O (io), V8 I/O (io), V9 I/O (io), W6 I/O (io), W7 I/O (io), W8 I/O (io), W9 I/O (io), Y6 I/O (io), Y7 I/O (io), Y8 I/O (io)
part H pins: A5 I/O (io), A7 I/O (io), A8 I/O (io), A9 I/O (io), B6 I/O (io), B7 I/O (io), B8 I/O (io), B9 I/O (io), C8 I/O (io), C9 I/O (io), D8 I/O (io), D9 I/O (io)
part I pins: U11 I/O (io), U12 I/O (io), V11 I/O (io), V12 I/O (io), V13 I/O (io), W11 I/O (io), W12 I/O (io), W13 I/O (io), W14 I/O (io), Y11 I/O (io), Y12 I/O (io), Y13 I/O (io)
part J pins: A12 I/O (io), A13 I/O (io), A14 I/O (io), B10 I/O (io), B11 I/O (io), B13 I/O (io), C10 I/O (io), C11 I/O (io), C12 I/O (io), C13 I/O (io), D10 I/O (io), D12 I/O (io)
part K pins: U14 I/O (io), V14 I/O (io), V16 I/O (io), V17 I/O (io), V18 I/O (io), W15 I/O (io), W19 I/O (io), Y15 I/O (io), Y16 I/O (io), Y17 I/O (io), Y18 I/O (io), Y19 I/O (io)
part L pins: A15 I/O (io), A16 I/O (io), A17 I/O (io), A18 I/O (io), B15 I/O (io), B18 I/O (io), C14 I/O (io), C15 I/O (io), C16 I/O (io), C17 I/O (io), D14 I/O (io), D16 I/O (io)
part M pins: P17 I/O (io), P18 I/O (io), R18 I/O (io), R20 I/O (io), T17 I/O (io), T18 I/O (io), T19 I/O (io), U19 I/O (io), U20 I/O (io), V19 I/O (io), V20 I/O (io), Y20 I/O (io)
part N pins: C18 I/O (io), C20 I/O (io), D18 I/O (io), D19 I/O (io), D20 I/O (io), E18 I/O (io), E19 I/O (io), E20 I/O (io), F18 I/O (io), F19 I/O (io), G17 I/O (io), G19 I/O (io)
part O pins: L18 I/O (io), L19 I/O (io), L20 I/O (io), M17 I/O (io), M18 I/O (io), M20 I/O (io), N17 I/O (io), N18 I/O (io), N19 I/O (io), N20 I/O (io), P19 I/O (io), P20 I/O (io)
part P pins: G20 I/O (io), H17 I/O (io), H18 I/O (io), H19 I/O (io), H20 I/O (io), J17 I/O (io), J18 I/O (io), J19 I/O (io), J20 I/O (io), K17 I/O (io), K18 I/O (io), K19 I/O (io)
part Q pins: B12 TDO (out), U16 TCK (in), W16 TDI (in), W17 TMS (in)
part R pins: A10 VCCINT 3.3V (power), B3 VCCINT 3.3V (power), B14 VCCINT 3.3V (power), B17 VCCINT 3.3V (power), C7 VCCINT 3.3V (power), D4 VCCIO 2.5V/3.3 V (power), D6 VCCIO 2.5V/3.3 V (power), D11 VCCIO 2.5V/3.3 V (power), D15 VCCIO 2.5V/3.3 V (power), D17 VCCIO 2.5V/3.3 V (power), E17 VCCINT 3.3V (power), F1 VCCINT 3.3V (power), F4 VCCIO 2.5V/3.3 V (power), F17 VCCIO 2.5V/3.3 V (power), F20 VCCINT 3.3V (power), G4 VCCINT 3.3V (power), K4 VCCIO 2.5V/3.3 V (power), L17 VCCIO 2.5V/3.3 V (power), M19 VCCINT 3.3V (power), P2 VCCINT 3.3V (power), R4 VCCIO 2.5V/3.3 V (power), R17 VCCIO 2.5V/3.3 V (power), T20 VCCINT 3.3V (power), U4 VCCIO 2.5V/3.3 V (power), U6 VCCIO 2.5V/3.3 V (power), U10 VCCIO 2.5V/3.3 V (power), U13 VCCINT 3.3V (power), U15 VCCIO 2.5V/3.3 V (power), U17 VCCIO 2.5V/3.3 V (power), V10 VCCINT 3.3V (power), W5 VCCINT 3.3V (power), W18 VCCINT 3.3V (power), Y9 VCCINT 3.3V (power)
part S pins: A6 GND (power), A11 GND (power), B1 GND (power), B16 GND (power), D13 GND (power), G18 GND (power), J9 GND (power), J10 GND (power), J11 GND (power), J12 GND (power), K3 GND (power), K9 GND (power), K10 GND (power), K11 GND (power), K12 GND (power), K20 GND (power), L9 GND (power), L10 GND (power), L11 GND (power), L12 GND (power), M9 GND (power), M10 GND (power), M11 GND (power), M12 GND (power), R19 GND (power), T1 GND (power), U18 GND (power), V15 GND (power), W10 GND (power), Y5 GND (power), Y10 GND (power), Y14 GND (power)
part T pins: A1 NC, A19 NC, A20 NC, B19 NC, B20 NC, C19 NC, W1 NC, W2 NC, W3 NC, W20 NC, Y1 NC
part A text: BANK 1
part B text: BANK 2
part C text: BANK 3
part D text: BANK 4
part E text: BANK 5
part F text: BANK 6
part G text: BANK 7
part H text: BANK 8
part I text: BANK 9
part J text: BANK 10
part K text: BANK 11
part L text: BANK 12
part M text: BANK 13
part N text: BANK 14
part O text: BANK 15
part P text: BANK 16

## XC95288XL-10BGG256I
designator U?
FastFLASH XC900XL, 3.3V High-Performance CPLD with 288 Macrocells, 256-Ball BGA, Industrial Grade, Pb-Free; Note: BGA package contains 16 extra balls (Grounded); Published: 8-Sep-2006; DatasheetVersion: ver2.0, Mar-2006; PackageVersion: ver1.2, Apr-2006; PackageReference: BGG256TE; Publisher: Altium Limited; PackageDescription: 256-Ball Plastic Ball Grid Array (BG256) - Thermally Enhanced - Pb-Free; Code_JEDEC: MS-034-BAL-2; ComponentLink1Description: Manufacturer Link; ComponentLink1URL: http://www.xilinx.com/products/silicon_solutions/cplds/xc9500_series/xc9500xl/index.htm; ComponentLink2Description: Datasheet; ComponentLink2URL: http://direct.xilinx.com/bvdocs/publications/ds055.pdf
footprint BGG256TE (BGA, 272-Leads, Body 27x27mm, Pitch 1.27mm)
3D model XC95288XL-BG256TE (256-Ball Plastic Ball Grid Array (BG256) - Thermally Enhanced - Pb-Free)
signal-integrity model XC95288XL_BG256 (XC9500XL)
part A pins: L1 I/O (io), L2 I/O (io), L3 I/O (io), L4 I/O (io), M1 I/O (io), M2 I/O (io), M3 I/O (io), M4 I/O (io), N1 I/O (io), N2 I/O (io), N3 I/O (io), N4 I/O (io)
part B pins: G1 I/O (io), G2 I/O (io), H1 I/O (io), H2 I/O (io), H3 I/O (io), H4 I/O (io), J1 I/O (io), J2 I/O (io), J3 I/O (io), J4 I/O (io), K1 I/O (io), K2 I/O (io)
part C pins: P1 I/O (io), P3 I/O (io), P4 I/O (io), R1 I/O (io), R2 I/O (io), R3 I/O (io), T2 I/O,GCK1 (io), T3 I/O (io), T4 I/O (io), U1 I/O (io), U2 I/O,GCK2 (io), V1 I/O (io)
part D pins: C1 I/O,GTS1 (io), C2 I/O,GTS3 (io), D1 I/O (io), D2 I/O (io), D3 I/O,GTS4 (io), E1 I/O,GTS2 (io), E2 I/O (io), E3 I/O (io), E4 I/O (io), F2 I/O (io), F3 I/O (io), G3 I/O (io)
part E pins: U3 I/O (io), U5 I/O (io), U7 I/O (io), V2 I/O (io), V3 I/O (io), V4 I/O (io), V5 I/O (io), V6 I/O (io), W4 I/O,GCK3 (io), Y2 I/O (io), Y3 I/O (io), Y4 I/O (io)
part F pins: A2 I/O,GSR (io), A3 I/O (io), A4 I/O (io), B2 I/O (io), B4 I/O (io), B5 I/O (io), C3 I/O (io), C4 I/O (io), C5 I/O (io), C6 I/O (io), D5 I/O (io), D7 I/O (io)
part G pins: U8 I/O (io), U9 I/O (io), V7 I/O (io), V8 I/O (io), V9 I/O (io), W6 I/O (io), W7 I/O (io), W8 I/O (io), W9 I/O (io), Y6 I/O (io), Y7 I/O (io), Y8 I/O (io)
part H pins: A5 I/O (io), A7 I/O (io), A8 I/O (io), A9 I/O (io), B6 I/O (io), B7 I/O (io), B8 I/O (io), B9 I/O (io), C8 I/O (io), C9 I/O (io), D8 I/O (io), D9 I/O (io)
part I pins: U11 I/O (io), U12 I/O (io), V11 I/O (io), V12 I/O (io), V13 I/O (io), W11 I/O (io), W12 I/O (io), W13 I/O (io), W14 I/O (io), Y11 I/O (io), Y12 I/O (io), Y13 I/O (io)
part J pins: A12 I/O (io), A13 I/O (io), A14 I/O (io), B10 I/O (io), B11 I/O (io), B13 I/O (io), C10 I/O (io), C11 I/O (io), C12 I/O (io), C13 I/O (io), D10 I/O (io), D12 I/O (io)
part K pins: U14 I/O (io), V14 I/O (io), V16 I/O (io), V17 I/O (io), V18 I/O (io), W15 I/O (io), W19 I/O (io), Y15 I/O (io), Y16 I/O (io), Y17 I/O (io), Y18 I/O (io), Y19 I/O (io)
part L pins: A15 I/O (io), A16 I/O (io), A17 I/O (io), A18 I/O (io), B15 I/O (io), B18 I/O (io), C14 I/O (io), C15 I/O (io), C16 I/O (io), C17 I/O (io), D14 I/O (io), D16 I/O (io)
part M pins: P17 I/O (io), P18 I/O (io), R18 I/O (io), R20 I/O (io), T17 I/O (io), T18 I/O (io), T19 I/O (io), U19 I/O (io), U20 I/O (io), V19 I/O (io), V20 I/O (io), Y20 I/O (io)
part N pins: C18 I/O (io), C20 I/O (io), D18 I/O (io), D19 I/O (io), D20 I/O (io), E18 I/O (io), E19 I/O (io), E20 I/O (io), F18 I/O (io), F19 I/O (io), G17 I/O (io), G19 I/O (io)
part O pins: L18 I/O (io), L19 I/O (io), L20 I/O (io), M17 I/O (io), M18 I/O (io), M20 I/O (io), N17 I/O (io), N18 I/O (io), N19 I/O (io), N20 I/O (io), P19 I/O (io), P20 I/O (io)
part P pins: G20 I/O (io), H17 I/O (io), H18 I/O (io), H19 I/O (io), H20 I/O (io), J17 I/O (io), J18 I/O (io), J19 I/O (io), J20 I/O (io), K17 I/O (io), K18 I/O (io), K19 I/O (io)
part Q pins: B12 TDO (out), U16 TCK (in), W16 TDI (in), W17 TMS (in)
part R pins: A10 VCCINT 3.3V (power), B3 VCCINT 3.3V (power), B14 VCCINT 3.3V (power), B17 VCCINT 3.3V (power), C7 VCCINT 3.3V (power), D4 VCCIO 2.5V/3.3 V (power), D6 VCCIO 2.5V/3.3 V (power), D11 VCCIO 2.5V/3.3 V (power), D15 VCCIO 2.5V/3.3 V (power), D17 VCCIO 2.5V/3.3 V (power), E17 VCCINT 3.3V (power), F1 VCCINT 3.3V (power), F4 VCCIO 2.5V/3.3 V (power), F17 VCCIO 2.5V/3.3 V (power), F20 VCCINT 3.3V (power), G4 VCCINT 3.3V (power), K4 VCCIO 2.5V/3.3 V (power), L17 VCCIO 2.5V/3.3 V (power), M19 VCCINT 3.3V (power), P2 VCCINT 3.3V (power), R4 VCCIO 2.5V/3.3 V (power), R17 VCCIO 2.5V/3.3 V (power), T20 VCCINT 3.3V (power), U4 VCCIO 2.5V/3.3 V (power), U6 VCCIO 2.5V/3.3 V (power), U10 VCCIO 2.5V/3.3 V (power), U13 VCCINT 3.3V (power), U15 VCCIO 2.5V/3.3 V (power), U17 VCCIO 2.5V/3.3 V (power), V10 VCCINT 3.3V (power), W5 VCCINT 3.3V (power), W18 VCCINT 3.3V (power), Y9 VCCINT 3.3V (power)
part S pins: A6 GND (power), A11 GND (power), B1 GND (power), B16 GND (power), D13 GND (power), G18 GND (power), J9 GND (power), J10 GND (power), J11 GND (power), J12 GND (power), K3 GND (power), K9 GND (power), K10 GND (power), K11 GND (power), K12 GND (power), K20 GND (power), L9 GND (power), L10 GND (power), L11 GND (power), L12 GND (power), M9 GND (power), M10 GND (power), M11 GND (power), M12 GND (power), R19 GND (power), T1 GND (power), U18 GND (power), V15 GND (power), W10 GND (power), Y5 GND (power), Y10 GND (power), Y14 GND (power)
part T pins: A1 NC, A19 NC, A20 NC, B19 NC, B20 NC, C19 NC, W1 NC, W2 NC, W3 NC, W20 NC, Y1 NC
part A text: BANK 1
part B text: BANK 2
part C text: BANK 3
part D text: BANK 4
part E text: BANK 5
part F text: BANK 6
part G text: BANK 7
part H text: BANK 8
part I text: BANK 9
part J text: BANK 10
part K text: BANK 11
part L text: BANK 12
part M text: BANK 13
part N text: BANK 14
part O text: BANK 15
part P text: BANK 16

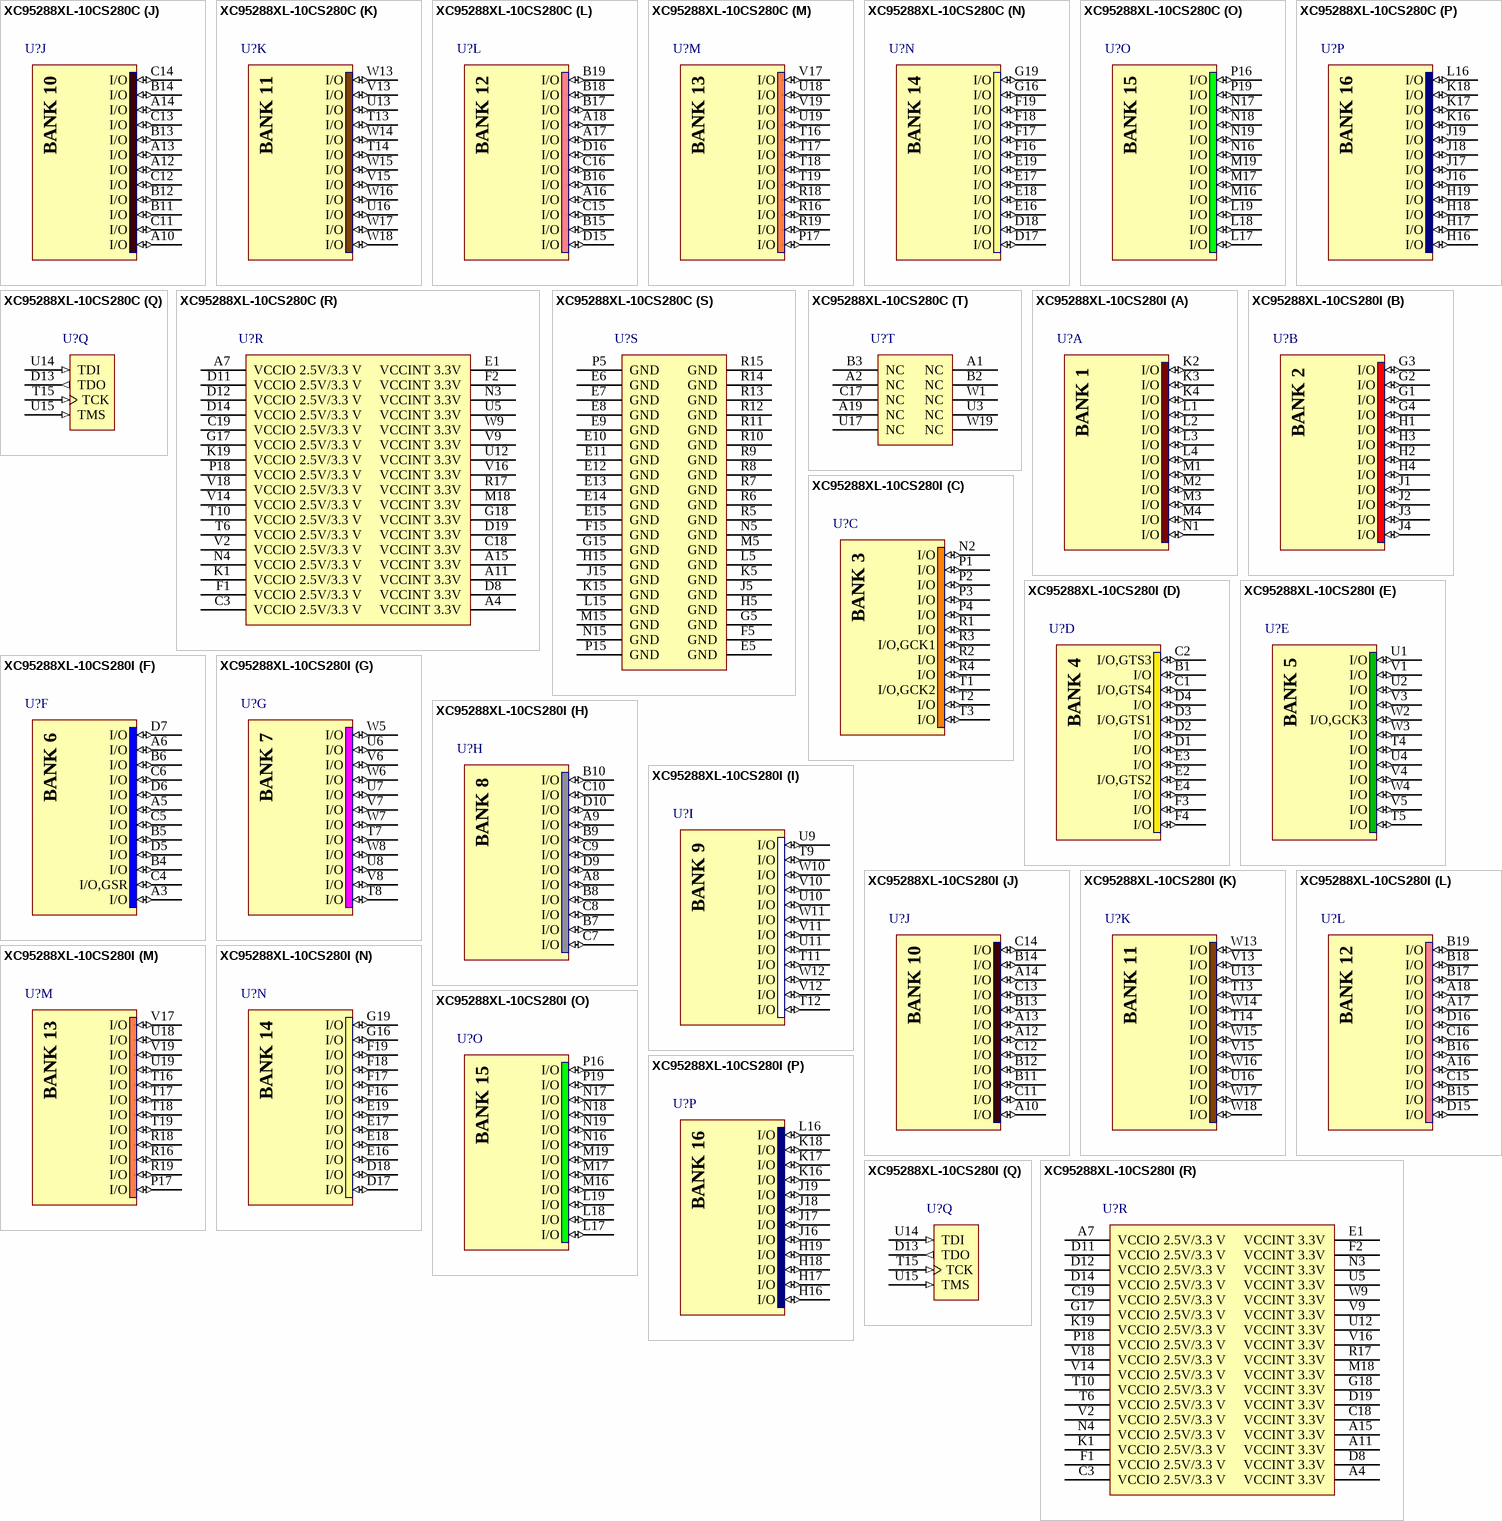
[diagram p45: symbols XC95288XL-10CS280C to XC95288XL-10CS280I]

## XC95288XL-10CS280C
designator U?
FastFLASH XC900XL, 3.3V High-Performance CPLD with 288 Macrocells, 280-Ball CSBGA, Commercial Grade; Published: 17-Jul-2002; LatestRevisionDate: 13-Apr-2006; LatestRevisionNote: IPC-7351 Footprint Added.; DatasheetVersion: ver2.0, Mar-2006; PackageVersion: ver1.0, Dec-2005; PackageReference: CS280LAM; Publisher: Altium Limited; PackageDescription: 280-Ball Laminate Chip Scale Ball Grid Array (CS280LAM); Code_JEDEC: MO-216-BAL-1 (Depopulated); ComponentLink1Description: Manufacturer Link; ComponentLink1URL: http://www.xilinx.com/products/silicon_solutions/cplds/xc9500_series/xc9500xl/index.htm; ComponentLink2Description: Datasheet; ComponentLink2URL: http://direct.xilinx.com/bvdocs/publications/ds055.pdf
footprint CS280LAM (BGA, 280-Leads, Body 16x16mm, Pitch 0.8mm)
3D model XC95288XL-CS280 (280-Ball Laminate Chip Scale Ball Grid Array (CS280LAM))
signal-integrity model XC95288XL_CS280 (XC9500XL)
part A pins: K2 I/O (io), K3 I/O (io), K4 I/O (io), L1 I/O (io), L2 I/O (io), L3 I/O (io), L4 I/O (io), M1 I/O (io), M2 I/O (io), M3 I/O (io), M4 I/O (io), N1 I/O (io)
part B pins: G1 I/O (io), G2 I/O (io), G3 I/O (io), G4 I/O (io), H1 I/O (io), H2 I/O (io), H3 I/O (io), H4 I/O (io), J1 I/O (io), J2 I/O (io), J3 I/O (io), J4 I/O (io)
part C pins: N2 I/O (io), P1 I/O (io), P2 I/O (io), P3 I/O (io), P4 I/O (io), R1 I/O (io), R2 I/O (io), R3 I/O,GCK1 (io), R4 I/O (io), T1 I/O,GCK2 (io), T2 I/O (io), T3 I/O (io)
part D pins: B1 I/O (io), C1 I/O,GTS4 (io), C2 I/O,GTS3 (io), D1 I/O (io), D2 I/O (io), D3 I/O,GTS1 (io), D4 I/O (io), E2 I/O,GTS2 (io), E3 I/O (io), E4 I/O (io), F3 I/O (io), F4 I/O (io)
part E pins: T4 I/O (io), T5 I/O (io), U1 I/O (io), U2 I/O (io), U4 I/O (io), V1 I/O (io), V3 I/O (io), V4 I/O (io), V5 I/O (io), W2 I/O,GCK3 (io), W3 I/O (io), W4 I/O (io)
part F pins: A3 I/O (io), A5 I/O (io), A6 I/O (io), B4 I/O (io), B5 I/O (io), B6 I/O (io), C4 I/O,GSR (io), C5 I/O (io), C6 I/O (io), D5 I/O (io), D6 I/O (io), D7 I/O (io)
part G pins: T7 I/O (io), T8 I/O (io), U6 I/O (io), U7 I/O (io), U8 I/O (io), V6 I/O (io), V7 I/O (io), V8 I/O (io), W5 I/O (io), W6 I/O (io), W7 I/O (io), W8 I/O (io)
part H pins: A8 I/O (io), A9 I/O (io), B7 I/O (io), B8 I/O (io), B9 I/O (io), B10 I/O (io), C7 I/O (io), C8 I/O (io), C9 I/O (io), C10 I/O (io), D9 I/O (io), D10 I/O (io)
part I pins: T9 I/O (io), T11 I/O (io), T12 I/O (io), U9 I/O (io), U10 I/O (io), U11 I/O (io), V10 I/O (io), V11 I/O (io), V12 I/O (io), W10 I/O (io), W11 I/O (io), W12 I/O (io)
part J pins: A10 I/O (io), A12 I/O (io), A13 I/O (io), A14 I/O (io), B11 I/O (io), B12 I/O (io), B13 I/O (io), B14 I/O (io), C11 I/O (io), C12 I/O (io), C13 I/O (io), C14 I/O (io)
part K pins: T13 I/O (io), T14 I/O (io), U13 I/O (io), U16 I/O (io), V13 I/O (io), V15 I/O (io), W13 I/O (io), W14 I/O (io), W15 I/O (io), W16 I/O (io), W17 I/O (io), W18 I/O (io)
part L pins: A16 I/O (io), A17 I/O (io), A18 I/O (io), B15 I/O (io), B16 I/O (io), B17 I/O (io), B18 I/O (io), B19 I/O (io), C15 I/O (io), C16 I/O (io), D15 I/O (io), D16 I/O (io)
part M pins: P17 I/O (io), R16 I/O (io), R18 I/O (io), R19 I/O (io), T16 I/O (io), T17 I/O (io), T18 I/O (io), T19 I/O (io), U18 I/O (io), U19 I/O (io), V17 I/O (io), V19 I/O (io)
part N pins: D17 I/O (io), D18 I/O (io), E16 I/O (io), E17 I/O (io), E18 I/O (io), E19 I/O (io), F16 I/O (io), F17 I/O (io), F18 I/O (io), F19 I/O (io), G16 I/O (io), G19 I/O (io)
part O pins: L17 I/O (io), L18 I/O (io), L19 I/O (io), M16 I/O (io), M17 I/O (io), M19 I/O (io), N16 I/O (io), N17 I/O (io), N18 I/O (io), N19 I/O (io), P16 I/O (io), P19 I/O (io)
part P pins: H16 I/O (io), H17 I/O (io), H18 I/O (io), H19 I/O (io), J16 I/O (io), J17 I/O (io), J18 I/O (io), J19 I/O (io), K16 I/O (io), K17 I/O (io), K18 I/O (io), L16 I/O (io)
part Q pins: D13 TDO (out), T15 TCK (in), U14 TDI (in), U15 TMS (in)
part R pins: A4 VCCINT 3.3V (power), A7 VCCIO 2.5V/3.3 V (power), A11 VCCINT 3.3V (power), A15 VCCINT 3.3V (power), C3 VCCIO 2.5V/3.3 V (power), C18 VCCINT 3.3V (power), C19 VCCIO 2.5V/3.3 V (power), D8 VCCINT 3.3V (power), D11 VCCIO 2.5V/3.3 V (power), D12 VCCIO 2.5V/3.3 V (power), D14 VCCIO 2.5V/3.3 V (power), D19 VCCINT 3.3V (power), E1 VCCINT 3.3V (power), F1 VCCIO 2.5V/3.3 V (power), F2 VCCINT 3.3V (power), G17 VCCIO 2.5V/3.3 V (power), G18 VCCINT 3.3V (power), K1 VCCIO 2.5V/3.3 V (power), K19 VCCIO 2.5V/3.3 V (power), M18 VCCINT 3.3V (power), N3 VCCINT 3.3V (power), N4 VCCIO 2.5V/3.3 V (power), P18 VCCIO 2.5V/3.3 V (power), R17 VCCINT 3.3V (power), T6 VCCIO 2.5V/3.3 V (power), T10 VCCIO 2.5V/3.3 V (power), U5 VCCINT 3.3V (power), U12 VCCINT 3.3V (power), V2 VCCIO 2.5V/3.3 V (power), V9 VCCINT 3.3V (power), V14 VCCIO 2.5V/3.3 V (power), V16 VCCINT 3.3V (power), V18 VCCIO 2.5V/3.3 V (power), W9 VCCINT 3.3V (power)
part S pins: E5 GND (power), E6 GND (power), E7 GND (power), E8 GND (power), E9 GND (power), E10 GND (power), E11 GND (power), E12 GND (power), E13 GND (power), E14 GND (power), E15 GND (power), F5 GND (power), F15 GND (power), G5 GND (power), G15 GND (power), H5 GND (power), H15 GND (power), J5 GND (power), J15 GND (power), K5 GND (power), K15 GND (power), L5 GND (power), L15 GND (power), M5 GND (power), M15 GND (power), N5 GND (power), N15 GND (power), P5 GND (power), P15 GND (power), R5 GND (power), R6 GND (power), R7 GND (power), R8 GND (power), R9 GND (power), R10 GND (power), R11 GND (power), R12 GND (power), R13 GND (power), R14 GND (power), R15 GND (power)
part T pins: A1 NC, A2 NC, A19 NC, B2 NC, B3 NC, C17 NC, U3 NC, U17 NC, W1 NC, W19 NC
part A text: BANK 1
part B text: BANK 2
part C text: BANK 3
part D text: BANK 4
part E text: BANK 5
part F text: BANK 6
part G text: BANK 7
part H text: BANK 8
part I text: BANK 9
part J text: BANK 10
part K text: BANK 11
part L text: BANK 12
part M text: BANK 13
part N text: BANK 14
part O text: BANK 15
part P text: BANK 16

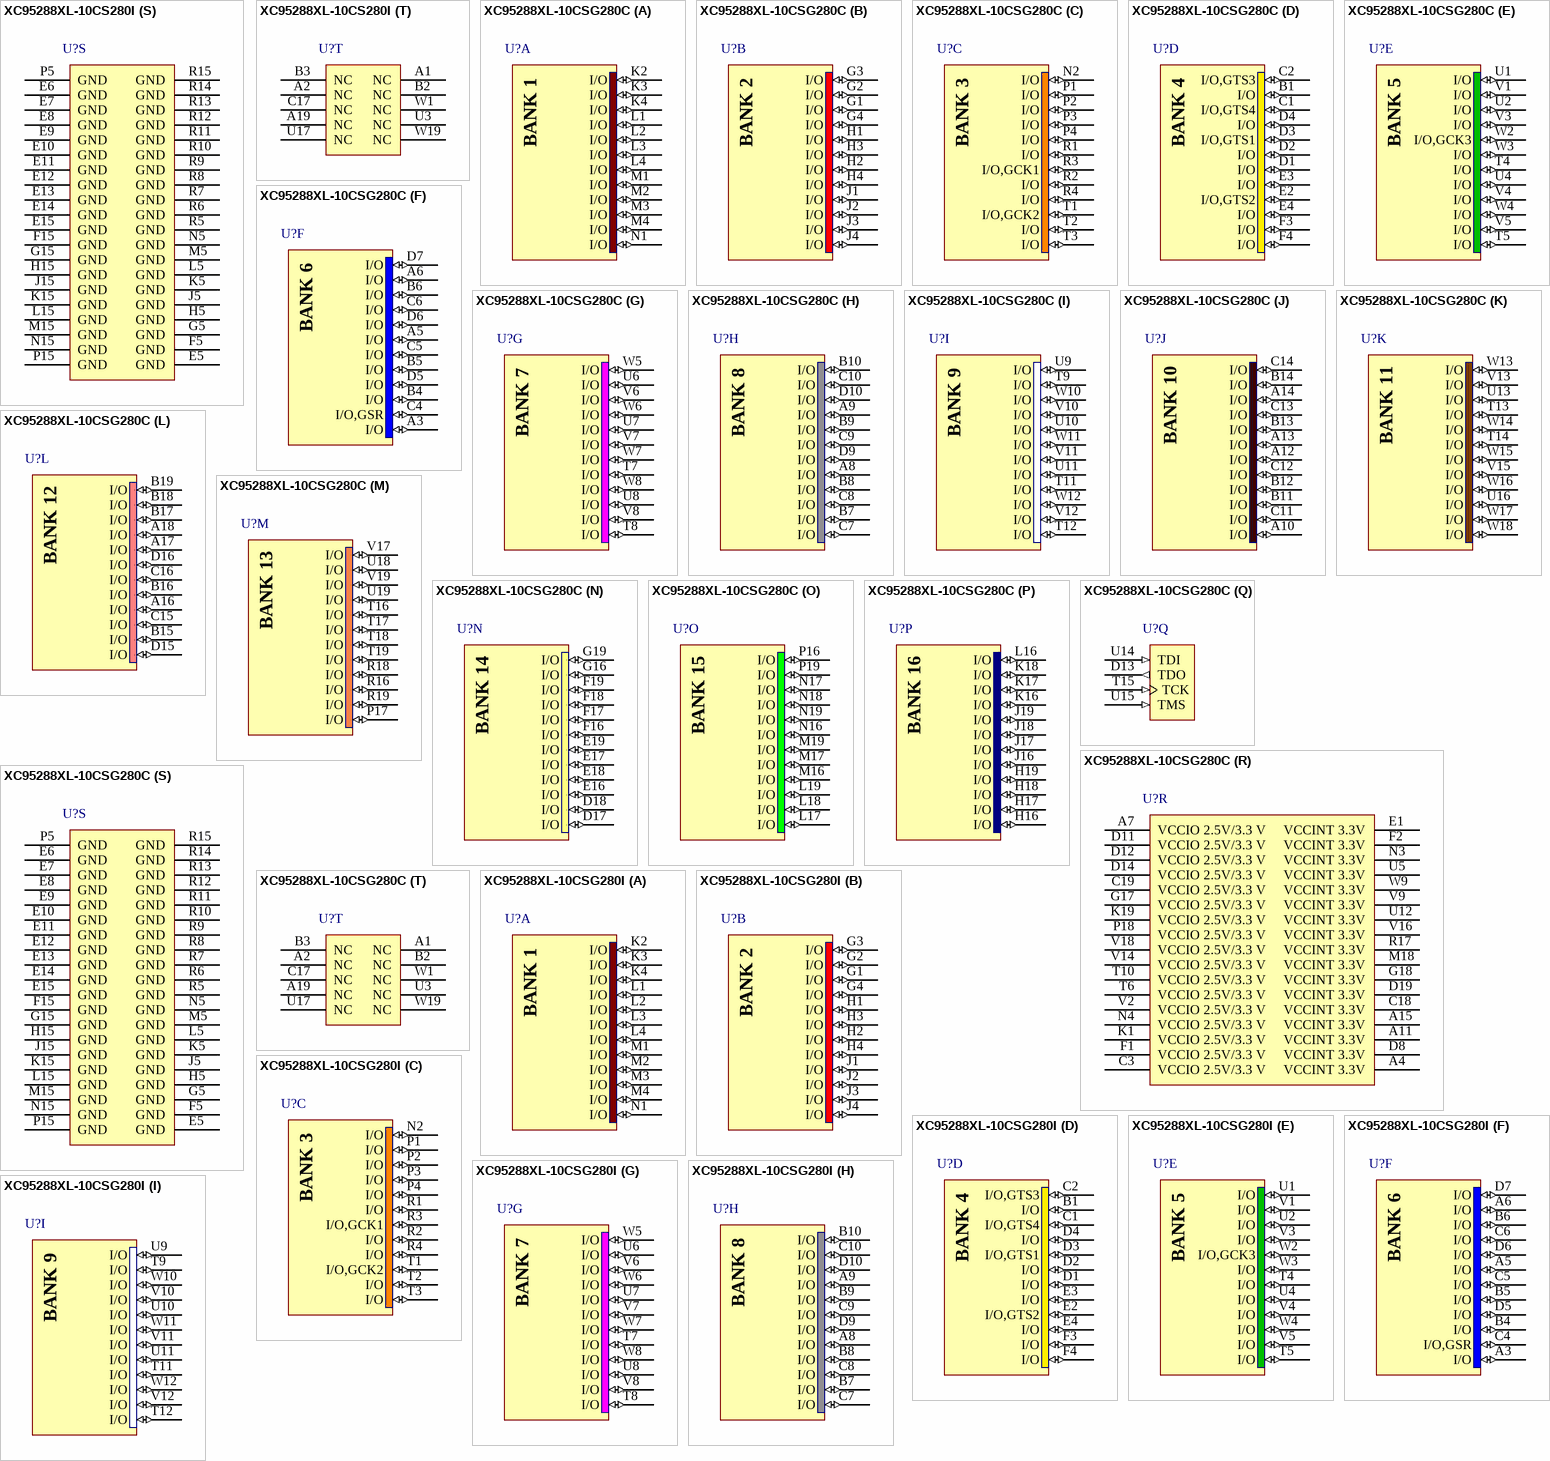
[diagram p46: symbols XC95288XL-10CS280I to XC95288XL-10CSG280I]

## XC95288XL-10CS280I
designator U?
FastFLASH XC900XL, 3.3V High-Performance CPLD with 288 Macrocells, 280-Ball CSBGA, Industrial Grade; Published: 17-Jul-2002; LatestRevisionDate: 13-Apr-2006; LatestRevisionNote: IPC-7351 Footprint Added.; DatasheetVersion: ver2.0, Mar-2006; PackageVersion: ver1.0, Dec-2005; PackageReference: CS280LAM; Publisher: Altium Limited; PackageDescription: 280-Ball Laminate Chip Scale Ball Grid Array (CS280LAM); Code_JEDEC: MO-216-BAL-1 (Depopulated); ComponentLink1Description: Manufacturer Link; ComponentLink1URL: http://www.xilinx.com/products/silicon_solutions/cplds/xc9500_series/xc9500xl/index.htm; ComponentLink2Description: Datasheet; ComponentLink2URL: http://direct.xilinx.com/bvdocs/publications/ds055.pdf
footprint CS280LAM (BGA, 280-Leads, Body 16x16mm, Pitch 0.8mm)
3D model XC95288XL-CS280 (280-Ball Laminate Chip Scale Ball Grid Array (CS280LAM))
signal-integrity model XC95288XL_CS280 (XC9500XL)
part A pins: K2 I/O (io), K3 I/O (io), K4 I/O (io), L1 I/O (io), L2 I/O (io), L3 I/O (io), L4 I/O (io), M1 I/O (io), M2 I/O (io), M3 I/O (io), M4 I/O (io), N1 I/O (io)
part B pins: G1 I/O (io), G2 I/O (io), G3 I/O (io), G4 I/O (io), H1 I/O (io), H2 I/O (io), H3 I/O (io), H4 I/O (io), J1 I/O (io), J2 I/O (io), J3 I/O (io), J4 I/O (io)
part C pins: N2 I/O (io), P1 I/O (io), P2 I/O (io), P3 I/O (io), P4 I/O (io), R1 I/O (io), R2 I/O (io), R3 I/O,GCK1 (io), R4 I/O (io), T1 I/O,GCK2 (io), T2 I/O (io), T3 I/O (io)
part D pins: B1 I/O (io), C1 I/O,GTS4 (io), C2 I/O,GTS3 (io), D1 I/O (io), D2 I/O (io), D3 I/O,GTS1 (io), D4 I/O (io), E2 I/O,GTS2 (io), E3 I/O (io), E4 I/O (io), F3 I/O (io), F4 I/O (io)
part E pins: T4 I/O (io), T5 I/O (io), U1 I/O (io), U2 I/O (io), U4 I/O (io), V1 I/O (io), V3 I/O (io), V4 I/O (io), V5 I/O (io), W2 I/O,GCK3 (io), W3 I/O (io), W4 I/O (io)
part F pins: A3 I/O (io), A5 I/O (io), A6 I/O (io), B4 I/O (io), B5 I/O (io), B6 I/O (io), C4 I/O,GSR (io), C5 I/O (io), C6 I/O (io), D5 I/O (io), D6 I/O (io), D7 I/O (io)
part G pins: T7 I/O (io), T8 I/O (io), U6 I/O (io), U7 I/O (io), U8 I/O (io), V6 I/O (io), V7 I/O (io), V8 I/O (io), W5 I/O (io), W6 I/O (io), W7 I/O (io), W8 I/O (io)
part H pins: A8 I/O (io), A9 I/O (io), B7 I/O (io), B8 I/O (io), B9 I/O (io), B10 I/O (io), C7 I/O (io), C8 I/O (io), C9 I/O (io), C10 I/O (io), D9 I/O (io), D10 I/O (io)
part I pins: T9 I/O (io), T11 I/O (io), T12 I/O (io), U9 I/O (io), U10 I/O (io), U11 I/O (io), V10 I/O (io), V11 I/O (io), V12 I/O (io), W10 I/O (io), W11 I/O (io), W12 I/O (io)
part J pins: A10 I/O (io), A12 I/O (io), A13 I/O (io), A14 I/O (io), B11 I/O (io), B12 I/O (io), B13 I/O (io), B14 I/O (io), C11 I/O (io), C12 I/O (io), C13 I/O (io), C14 I/O (io)
part K pins: T13 I/O (io), T14 I/O (io), U13 I/O (io), U16 I/O (io), V13 I/O (io), V15 I/O (io), W13 I/O (io), W14 I/O (io), W15 I/O (io), W16 I/O (io), W17 I/O (io), W18 I/O (io)
part L pins: A16 I/O (io), A17 I/O (io), A18 I/O (io), B15 I/O (io), B16 I/O (io), B17 I/O (io), B18 I/O (io), B19 I/O (io), C15 I/O (io), C16 I/O (io), D15 I/O (io), D16 I/O (io)
part M pins: P17 I/O (io), R16 I/O (io), R18 I/O (io), R19 I/O (io), T16 I/O (io), T17 I/O (io), T18 I/O (io), T19 I/O (io), U18 I/O (io), U19 I/O (io), V17 I/O (io), V19 I/O (io)
part N pins: D17 I/O (io), D18 I/O (io), E16 I/O (io), E17 I/O (io), E18 I/O (io), E19 I/O (io), F16 I/O (io), F17 I/O (io), F18 I/O (io), F19 I/O (io), G16 I/O (io), G19 I/O (io)
part O pins: L17 I/O (io), L18 I/O (io), L19 I/O (io), M16 I/O (io), M17 I/O (io), M19 I/O (io), N16 I/O (io), N17 I/O (io), N18 I/O (io), N19 I/O (io), P16 I/O (io), P19 I/O (io)
part P pins: H16 I/O (io), H17 I/O (io), H18 I/O (io), H19 I/O (io), J16 I/O (io), J17 I/O (io), J18 I/O (io), J19 I/O (io), K16 I/O (io), K17 I/O (io), K18 I/O (io), L16 I/O (io)
part Q pins: D13 TDO (out), T15 TCK (in), U14 TDI (in), U15 TMS (in)
part R pins: A4 VCCINT 3.3V (power), A7 VCCIO 2.5V/3.3 V (power), A11 VCCINT 3.3V (power), A15 VCCINT 3.3V (power), C3 VCCIO 2.5V/3.3 V (power), C18 VCCINT 3.3V (power), C19 VCCIO 2.5V/3.3 V (power), D8 VCCINT 3.3V (power), D11 VCCIO 2.5V/3.3 V (power), D12 VCCIO 2.5V/3.3 V (power), D14 VCCIO 2.5V/3.3 V (power), D19 VCCINT 3.3V (power), E1 VCCINT 3.3V (power), F1 VCCIO 2.5V/3.3 V (power), F2 VCCINT 3.3V (power), G17 VCCIO 2.5V/3.3 V (power), G18 VCCINT 3.3V (power), K1 VCCIO 2.5V/3.3 V (power), K19 VCCIO 2.5V/3.3 V (power), M18 VCCINT 3.3V (power), N3 VCCINT 3.3V (power), N4 VCCIO 2.5V/3.3 V (power), P18 VCCIO 2.5V/3.3 V (power), R17 VCCINT 3.3V (power), T6 VCCIO 2.5V/3.3 V (power), T10 VCCIO 2.5V/3.3 V (power), U5 VCCINT 3.3V (power), U12 VCCINT 3.3V (power), V2 VCCIO 2.5V/3.3 V (power), V9 VCCINT 3.3V (power), V14 VCCIO 2.5V/3.3 V (power), V16 VCCINT 3.3V (power), V18 VCCIO 2.5V/3.3 V (power), W9 VCCINT 3.3V (power)
part S pins: E5 GND (power), E6 GND (power), E7 GND (power), E8 GND (power), E9 GND (power), E10 GND (power), E11 GND (power), E12 GND (power), E13 GND (power), E14 GND (power), E15 GND (power), F5 GND (power), F15 GND (power), G5 GND (power), G15 GND (power), H5 GND (power), H15 GND (power), J5 GND (power), J15 GND (power), K5 GND (power), K15 GND (power), L5 GND (power), L15 GND (power), M5 GND (power), M15 GND (power), N5 GND (power), N15 GND (power), P5 GND (power), P15 GND (power), R5 GND (power), R6 GND (power), R7 GND (power), R8 GND (power), R9 GND (power), R10 GND (power), R11 GND (power), R12 GND (power), R13 GND (power), R14 GND (power), R15 GND (power)
part T pins: A1 NC, A2 NC, A19 NC, B2 NC, B3 NC, C17 NC, U3 NC, U17 NC, W1 NC, W19 NC
part A text: BANK 1
part B text: BANK 2
part C text: BANK 3
part D text: BANK 4
part E text: BANK 5
part F text: BANK 6
part G text: BANK 7
part H text: BANK 8
part I text: BANK 9
part J text: BANK 10
part K text: BANK 11
part L text: BANK 12
part M text: BANK 13
part N text: BANK 14
part O text: BANK 15
part P text: BANK 16